# Altium schematic symbol library diy-modules.SCHLIB: 111 symbols (part 1 of 2)
Pins are listed as number, name and electrical type; pins without a type are passive.

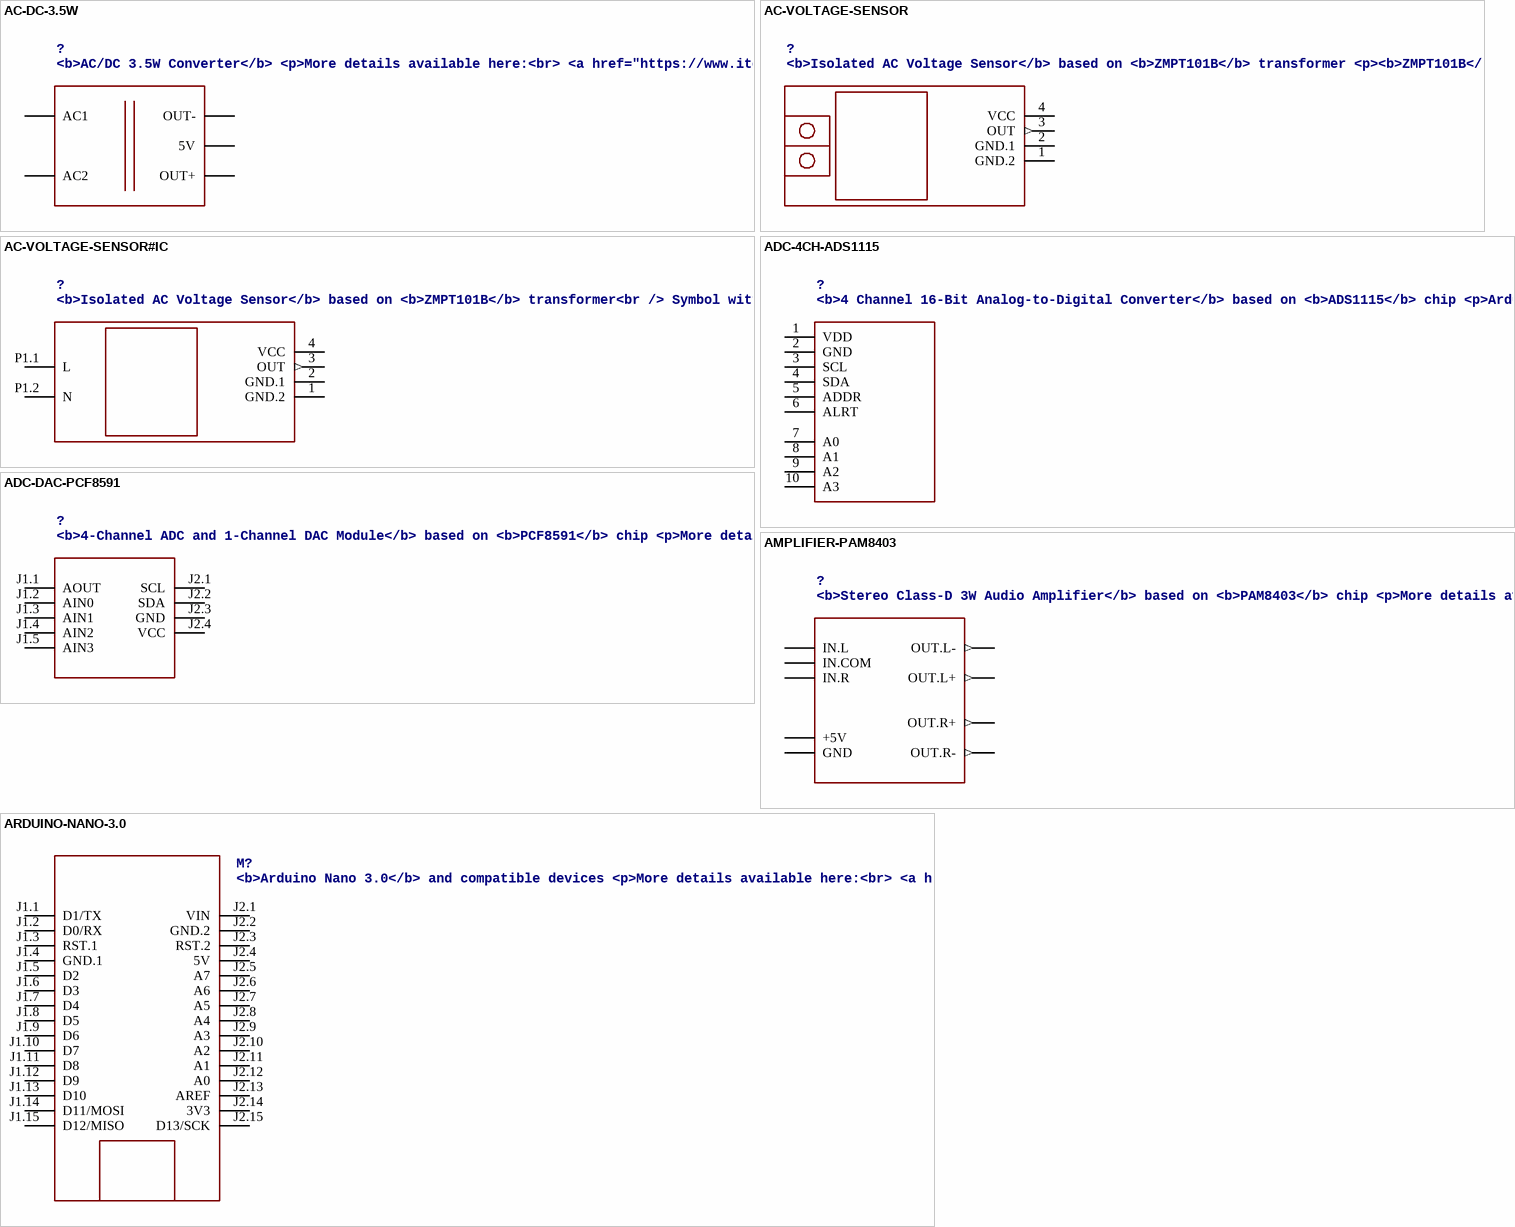
[diagram p0: symbols AC-DC-3.5W to ARDUINO-NANO-3.0]

## AC-DC-3.5W
designator ?, comment <b>AC/DC 3.5W Converter</b> / <p>More details available here:<br> / <a href="https://www.itead.cc/wiki/AC-DC_Power_Module_5V_700mA">https://www.itead.cc/wiki/AC-DC_Power_Module_5V_700mA</a></p> / <p><b><a href="http://www.ebay.com/sch/ac+dc+3.5w+buck+step">Click here to find device on ebay.com</a></b></p> / <p><img alt="photo" src="http://www.diymodules.org/img/device-photo.php?name=AC-DC-3.5W"></p>
footprint AC-DC-3.5W
pins: J1.1 AC1, J1.2 AC2, J2.1 OUT-, J2.2 5V, J2.3 OUT+

## AC-VOLTAGE-SENSOR
designator ?, comment <b>Isolated AC Voltage Sensor</b> based on <b>ZMPT101B</b> transformer / <p><b>ZMPT101B</b> Voltage Transformer Operating Guide is available here:<br /> / <a href="http://www.zeming-e.com/file/0_2013_10_18_093344.pdf">http://www.zeming-e.com/file/0_2013_10_18_093344.pdf</a></p> / <p><b><a href="http://www.ebay.com/sch/arduino+voltage+transformer">Click here to find device on ebay.com</a></b></p> / <p><img alt="photo" src="http://www.diymodules.org/img/device-photo.php?name=AC-VOLTAGE-SENSOR"></p>
footprint AC-VOLTAGE-SENSOR
pins: 1 GND.2 (power), 2 GND.1 (power), 3 OUT (out), 4 VCC (power)

## AC-VOLTAGE-SENSOR#IC
designator ?, comment <b>Isolated AC Voltage Sensor</b> based on <b>ZMPT101B</b> transformer<br /> / Symbol with input connector / <p><b>ZMPT101B</b> Voltage Transformer Operating Guide is available here:<br /> / <a href="http://www.zeming-e.com/file/0_2013_10_18_093344.pdf">http://www.zeming-e.com/file/0_2013_10_18_093344.pdf</a></p> / <p><b><a href="http://www.ebay.com/sch/arduino+voltage+transformer">Click here to find device on ebay.com</a></b></p> / <p><img alt="photo" src="http://www.diymodules.org/img/device-photo.php?name=AC-VOLTAGE-SENSOR"></p>
footprint AC-VOLTAGE-SENSOR#IC
pins: 1 GND.2 (power), 2 GND.1 (power), 3 OUT (out), 4 VCC (power), P1.1 L, P1.2 N

## ADC-4CH-ADS1115
designator ?, comment <b>4 Channel 16-Bit Analog-to-Digital Converter</b> based on <b>ADS1115</b> chip / <p>Arduino <b>ADS1115</b> Getting Started Tutorial is available here:<br /> / <a href="http://henrysbench.capnfatz.com/henrys-bench/arduino-voltage-measurements/arduino-ads1115-module-getting-started-tutorial/">http://henrysbench.capnfatz.com/henrys-bench/arduino-voltage-measurements/arduino-ads1115-module-getting-started-tutorial/</a></p> / <p><b>ADS1115</b> datasheet is available here:<br /> / <a href="http://www.ti.com/lit/ds/symlink/ads1115.pdf">http://www.ti.com/lit/ds/symlink/ads1115.pdf</a></p> / <p><b><a href="http://www.ebay.com/sch/ads1115+module">Click here to find device on ebay.com</a></b></p> / <p><img alt="photo" src="http://www.diymodules.org/img/device-photo.php?name=ADC-4CH-ADS1115"></p>
footprint ADC-4CH-ADS1115
pins: 1 VDD (power), 2 GND (power), 3 SCL, 4 SDA, 5 ADDR, 6 ALRT, 7 A0, 8 A1, 9 A2, 10 A3

## ADC-DAC-PCF8591
designator ?, comment <b>4-Channel ADC and 1-Channel DAC Module</b> based on <b>PCF8591</b> chip / <p>More details available here:<br> / <a href="https://brainfyre.wordpress.com/2012/10/25/pcf8591-yl-40-ad-da-module-review/"> / https://brainfyre.wordpress.com/2012/10/25/pcf8591-yl-40-ad-da-module-review/</a></p> / <p><b><a href="http://www.ebay.com/sch/pcf8591+arduino">Click here to find device on ebay.com</a></b></p> / <p><img alt="photo" src="http://www.diymodules.org/img/device-photo.php?name=ADC-DAC-PCF8591"></p>
footprint ADC-DAC-PCF8591
pins: J1.1 AOUT, J1.2 AIN0, J1.3 AIN1, J1.4 AIN2, J1.5 AIN3, J2.1 SCL, J2.2 SDA, J2.3 GND (power), J2.4 VCC (power)

## AMPLIFIER-PAM8403
designator ?, comment <b>Stereo Class-D 3W Audio Amplifier</b> based on <b>PAM8403</b> chip / <p>More details available here:<br> / <a href="http://artofcircuits.com/product/pam8403-5v-two-channel-stereo-mini-class-d-3w3w-audio-amplifier"> / http://artofcircuits.com/product/pam8403-5v-two-channel-stereo-mini-class-d-3w3w-audio-amplifier</a></p> / <p><b><a href="http://www.ebay.com/sch/pam8403+mini+class+d">Click here to find device on ebay.com</a></b></p> / <p><img alt="photo" src="http://www.diymodules.org/img/device-photo.php?name=AMPLIFIER-PAM8403"></p>
footprint AMPLIFIER-PAM8403
pins: +5V (power), GND (power), IN.COM, IN.L, IN.R, OUT.L+ (out), OUT.L- (out), OUT.R+ (out), OUT.R- (out)

## ARDUINO-NANO-3.0
designator M?, comment <b>Arduino Nano 3.0</b> and compatible devices / <p>More details available here:<br> / <a href="https://www.arduino.cc/en/Main/ArduinoBoardNano">https://www.arduino.cc/en/Main/ArduinoBoardNano</a></p> / <p><b><a href="http://www.ebay.com/sch/arduino+nano">Click here to find device on ebay.com</a></b></p> / <p><img alt="photo" src="http://www.diymodules.org/img/device-photo.php?name=ARDUINO-NANO-3.0"></p>
footprint ARDUINO-NANO-3.0
pins: J1.1 D1/TX, J1.2 D0/RX, J1.3 RST.1, J1.4 GND.1 (power), J1.5 D2, J1.6 D3, J1.7 D4, J1.8 D5, J1.9 D6, J1.10 D7, J1.11 D8, J1.12 D9, J1.13 D10, J1.14 D11/MOSI, J1.15 D12/MISO, J2.1 VIN (power), J2.2 GND.2 (power), J2.3 RST.2, J2.4 5V (power), J2.5 A7, J2.6 A6, J2.7 A5, J2.8 A4, J2.9 A3, J2.10 A2, J2.11 A1, J2.12 A0, J2.13 AREF, J2.14 3V3 (power), J2.15 D13/SCK

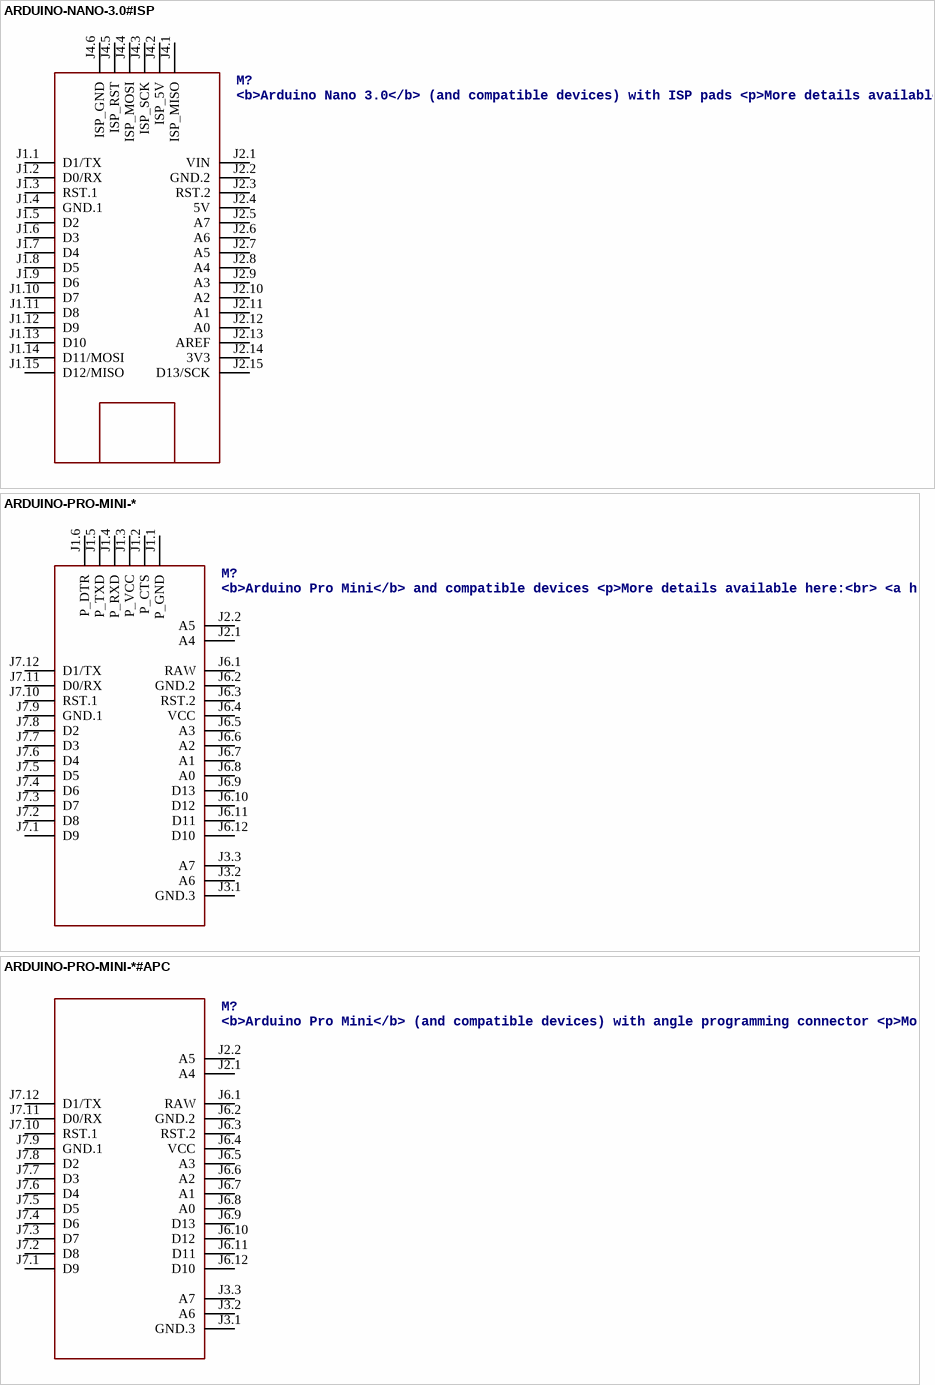
[diagram p1: symbols ARDUINO-NANO-3.0#ISP to ARDUINO-PRO-MINI-*#APC]

## ARDUINO-NANO-3.0#ISP
designator M?, comment <b>Arduino Nano 3.0</b> (and compatible devices) with ISP pads / <p>More details available here:<br> / <a href="https://www.arduino.cc/en/Main/ArduinoBoardNano">https://www.arduino.cc/en/Main/ArduinoBoardNano</a></p> / <p><b><a href="http://www.ebay.com/sch/arduino+nano">Click here to find device on ebay.com</a></b></p> / <p><img alt="photo" src="http://www.diymodules.org/img/device-photo.php?name=ARDUINO-NANO-3.0"></p>
footprint ARDUINO-NANO-3.0#ISP
pins: J1.1 D1/TX, J1.2 D0/RX, J1.3 RST.1, J1.4 GND.1 (power), J1.5 D2, J1.6 D3, J1.7 D4, J1.8 D5, J1.9 D6, J1.10 D7, J1.11 D8, J1.12 D9, J1.13 D10, J1.14 D11/MOSI, J1.15 D12/MISO, J2.1 VIN (power), J2.2 GND.2 (power), J2.3 RST.2, J2.4 5V (power), J2.5 A7, J2.6 A6, J2.7 A5, J2.8 A4, J2.9 A3, J2.10 A2, J2.11 A1, J2.12 A0, J2.13 AREF, J2.14 3V3 (power), J2.15 D13/SCK, J4.1 ISP_MISO, J4.2 ISP_5V, J4.3 ISP_SCK, J4.4 ISP_MOSI, J4.5 ISP_RST, J4.6 ISP_GND

## ARDUINO-PRO-MINI-*
designator M?, comment <b>Arduino Pro Mini</b> and compatible devices / <p>More details available here:<br> / <a href="https://www.arduino.cc/en/Main/ArduinoBoardProMini">https://www.arduino.cc/en/Main/ArduinoBoardProMini</a></p> / <p><b><a href="http://www.ebay.com/sch/arduino+pro+mini">Click here to find device on ebay.com</a></b></p> / <p><img alt="photo" src="http://www.diymodules.org/img/device-photo.php?name=ARDUINO-PRO-MINI-"></p>
footprint ARDUINO-PRO-MINI
pins: J1.1 P_GND, J1.2 P_CTS, J1.3 P_VCC, J1.4 P_RXD, J1.5 P_TXD, J1.6 P_DTR, J2.1 A4, J2.2 A5, J3.1 GND.3, J3.2 A6, J3.3 A7, J6.1 RAW (power), J6.2 GND.2 (power), J6.3 RST.2, J6.4 VCC (power), J6.5 A3, J6.6 A2, J6.7 A1, J6.8 A0, J6.9 D13, J6.10 D12, J6.11 D11, J6.12 D10, J7.1 D9, J7.2 D8, J7.3 D7, J7.4 D6, J7.5 D5, J7.6 D4, J7.7 D3, J7.8 D2, J7.9 GND.1 (power), J7.10 RST.1, J7.11 D0/RX, J7.12 D1/TX

## ARDUINO-PRO-MINI-*#APC
designator M?, comment <b>Arduino Pro Mini</b> (and compatible devices) with angle programming connector / <p>More details available here:<br> / <a href="https://www.arduino.cc/en/Main/ArduinoBoardProMini">https://www.arduino.cc/en/Main/ArduinoBoardProMini</a></p> / <p><b><a href="http://www.ebay.com/sch/arduino+pro+mini">Click here to find device on ebay.com</a></b></p> / <p><img alt="photo" src="http://www.diymodules.org/img/device-photo.php?name=ARDUINO-PRO-MINI-"></p>
footprint ARDUINO-PRO-MINI#APC
pins: J2.1 A4, J2.2 A5, J3.1 GND.3, J3.2 A6, J3.3 A7, J6.1 RAW (power), J6.2 GND.2 (power), J6.3 RST.2, J6.4 VCC (power), J6.5 A3, J6.6 A2, J6.7 A1, J6.8 A0, J6.9 D13, J6.10 D12, J6.11 D11, J6.12 D10, J7.1 D9, J7.2 D8, J7.3 D7, J7.4 D6, J7.5 D5, J7.6 D4, J7.7 D3, J7.8 D2, J7.9 GND.1 (power), J7.10 RST.1, J7.11 D0/RX, J7.12 D1/TX

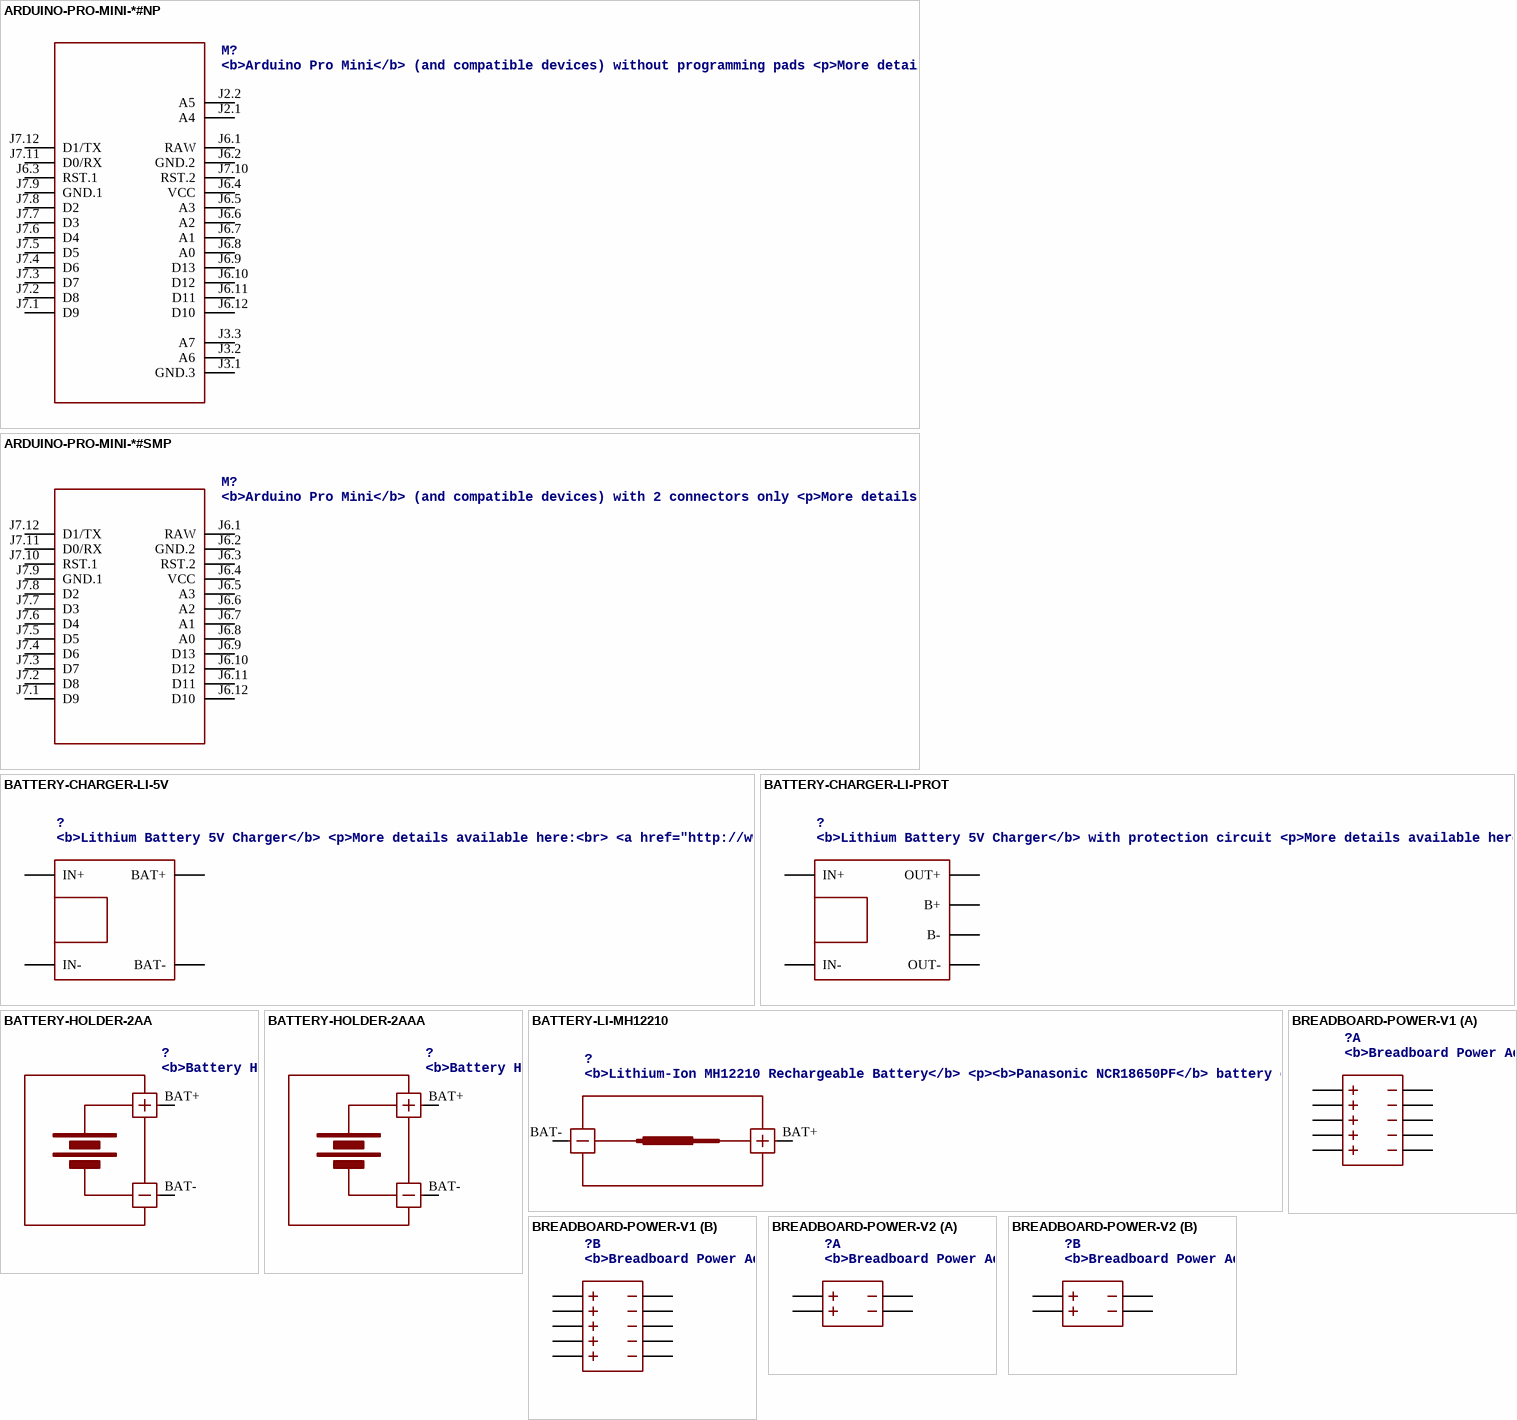
[diagram p2: symbols ARDUINO-PRO-MINI-*#NP to BREADBOARD-POWER-V2]

## ARDUINO-PRO-MINI-*#NP
designator M?, comment <b>Arduino Pro Mini</b> (and compatible devices) without programming pads / <p>More details available here:<br> / <a href="https://www.arduino.cc/en/Main/ArduinoBoardProMini">https://www.arduino.cc/en/Main/ArduinoBoardProMini</a></p> / <p><b><a href="http://www.ebay.com/sch/arduino+pro+mini">Click here to find device on ebay.com</a></b></p> / <p><img alt="photo" src="http://www.diymodules.org/img/device-photo.php?name=ARDUINO-PRO-MINI-"></p>
footprint ARDUINO-PRO-MINI#NP
pins: J2.1 A4, J2.2 A5, J3.1 GND.3, J3.2 A6, J3.3 A7, J6.1 RAW (power), J6.2 GND.2 (power), J6.3 RST.1, J6.4 VCC (power), J6.5 A3, J6.6 A2, J6.7 A1, J6.8 A0, J6.9 D13, J6.10 D12, J6.11 D11, J6.12 D10, J7.1 D9, J7.2 D8, J7.3 D7, J7.4 D6, J7.5 D5, J7.6 D4, J7.7 D3, J7.8 D2, J7.9 GND.1 (power), J7.10 RST.2, J7.11 D0/RX, J7.12 D1/TX

## ARDUINO-PRO-MINI-*#SMP
designator M?, comment <b>Arduino Pro Mini</b> (and compatible devices) with 2 connectors only / <p>More details available here:<br> / <a href="https://www.arduino.cc/en/Main/ArduinoBoardProMini">https://www.arduino.cc/en/Main/ArduinoBoardProMini</a></p> / <p><b><a href="http://www.ebay.com/sch/arduino+pro+mini">Click here to find device on ebay.com</a></b></p> / <p><img alt="photo" src="http://www.diymodules.org/img/device-photo.php?name=ARDUINO-PRO-MINI-"></p>
footprint ARDUINO-PRO-MINI#SMP
pins: J6.1 RAW (power), J6.2 GND.2 (power), J6.3 RST.2, J6.4 VCC (power), J6.5 A3, J6.6 A2, J6.7 A1, J6.8 A0, J6.9 D13, J6.10 D12, J6.11 D11, J6.12 D10, J7.1 D9, J7.2 D8, J7.3 D7, J7.4 D6, J7.5 D5, J7.6 D4, J7.7 D3, J7.8 D2, J7.9 GND.1 (power), J7.10 RST.1, J7.11 D0/RX, J7.12 D1/TX

## BATTERY-CHARGER-LI-5V
designator ?, comment <b>Lithium Battery 5V Charger</b> / <p>More details available here:<br> / <a href="http://www.buildcircuit.com/how-to-use-micro-usb-5v-1a-lithium-battery-charging-board-charger-module/"> / http://www.buildcircuit.com/how-to-use-micro-usb-5v-1a-lithium-battery-charging-board-charger-module/</a></p> / <p><b><a href="http://www.ebay.com/sch/tp4056+charger+usb">Click here to find device on ebay.com</a></b></p> / <p><img alt="photo" src="http://www.diymodules.org/img/device-photo.php?name=BATTERY-CHARGER-LI-5V"></p>
footprint BATTERY-CHARGER-LI-5V
pins: BAT+, BAT-, IN+, IN-

## BATTERY-CHARGER-LI-PROT
designator ?, comment <b>Lithium Battery 5V Charger</b> with protection circuit / <p>More details available here:<br> / <a href="http://www.instructables.com/id/DIY-Lithium-ion-Battery-Charger/step4/TP4056-based-lithium-ion-battery-charger-module/"> / http://www.instructables.com/id/DIY-Lithium-ion-Battery-Charger/step4/TP4056-based-lithium-ion-battery-charger-module/</a></p> / <p><b><a href="http://www.ebay.com/sch/tp4056+charger+usb+protection">Click here to find device on ebay.com</a></b></p> / <p><img alt="photo" src="http://www.diymodules.org/img/device-photo.php?name=BATTERY-CHARGER-LI-PROT"></p>
footprint BATTERY-CHARGER-LI-PROT
pins: B+, B-, IN+, IN-, OUT+, OUT-

## BATTERY-HOLDER-2AA
designator ?, comment <b>Battery Holder 2 x AA</b> / <p><b><a href="http://www.ebay.com/sch/battery+plastic+holder+aa+2x1.5v">Click here to find device on ebay.com</a></b></p> / <p><img alt="photo" src="http://www.diymodules.org/img/device-photo.php?name=BATTERY-HOLDER-2AA"></p>
footprint BATTERY-HOLDER-2AA
pins: BAT+ (power), BAT- (power)

## BATTERY-HOLDER-2AAA
designator ?, comment <b>Battery Holder 2 x AAA</b> / <p><b><a href="http://www.ebay.com/sch/battery+plastic+holder+aaa+2x1.5v">Click here to find device on ebay.com</a></b></p> / <p><img alt="photo" src="http://www.diymodules.org/img/device-photo.php?name=BATTERY-HOLDER-2AAA"></p>
footprint BATTERY-HOLDER-2AAA
pins: BAT+ (power), BAT- (power)

## BATTERY-LI-MH12210
designator ?, comment <b>Lithium-Ion MH12210 Rechargeable Battery</b> / <p><b>Panasonic NCR18650PF</b> battery datasheet available here:<br /><a href="https://industrial.panasonic.com/cdbs/www-data/pdf2/ACI4000/ACI4000C12.pdf">https://industrial.panasonic.com/cdbs/www-data/pdf2/ACI4000/ACI4000C12.pdf</a></p> / <p><b><a href="http://www.ebay.com/sch/ncr18650b+battery">Click here to find device on ebay.com</a></b></p> / <p><img alt="photo" src="http://www.diymodules.org/img/device-photo.php?name=BATTERY-LI-MH12210"></p>
footprint BATTERY-LI-MH12210
pins: BAT+ (power), BAT- (power)

## BREADBOARD-POWER-V1
designator ?, comment <b>Breadboard Power Adapter</b> with onboard 3.3V and 5V regulators / <p><img alt="photo" src="http://www.diymodules.org/img/device-photo.php?name=BREADBOARD-POWER-V1"></p>
footprint BREADBOARD-POWER-V1
part A pins: A.M.1 M.1, A.M.2 M.2, A.M.3 M.3, A.M.4 M.4, A.M.5 M.5, A.P.1 P.1, A.P.2 P.2, A.P.3 P.3, A.P.4 P.4, A.P.5 P.5
part B pins: B.M.1 M.1, B.M.2 M.2, B.M.3 M.3, B.M.4 M.4, B.M.5 M.5, B.P.1 P.1, B.P.2 P.2, B.P.3 P.3, B.P.4 P.4, B.P.5 P.5

## BREADBOARD-POWER-V2
designator ?, comment <b>Breadboard Power Adapter</b> with onboard 3.3V and 5V regulators / <p><b><a href="http://www.ebay.com/sch/breadboard+power+mb102">Click here to find device on ebay.com</a></b></p> / <p><img alt="photo" src="http://www.diymodules.org/img/device-photo.php?name=BREADBOARD-POWER-V2"></p>
footprint BREADBOARD-POWER-V2
part A pins: A.M.1 M.1, A.M.2 M.2, A.P.1 P.1, A.P.2 P.2
part B pins: B.M.1 M.1, B.M.2 M.2, B.P.1 P.1, B.P.2 P.2

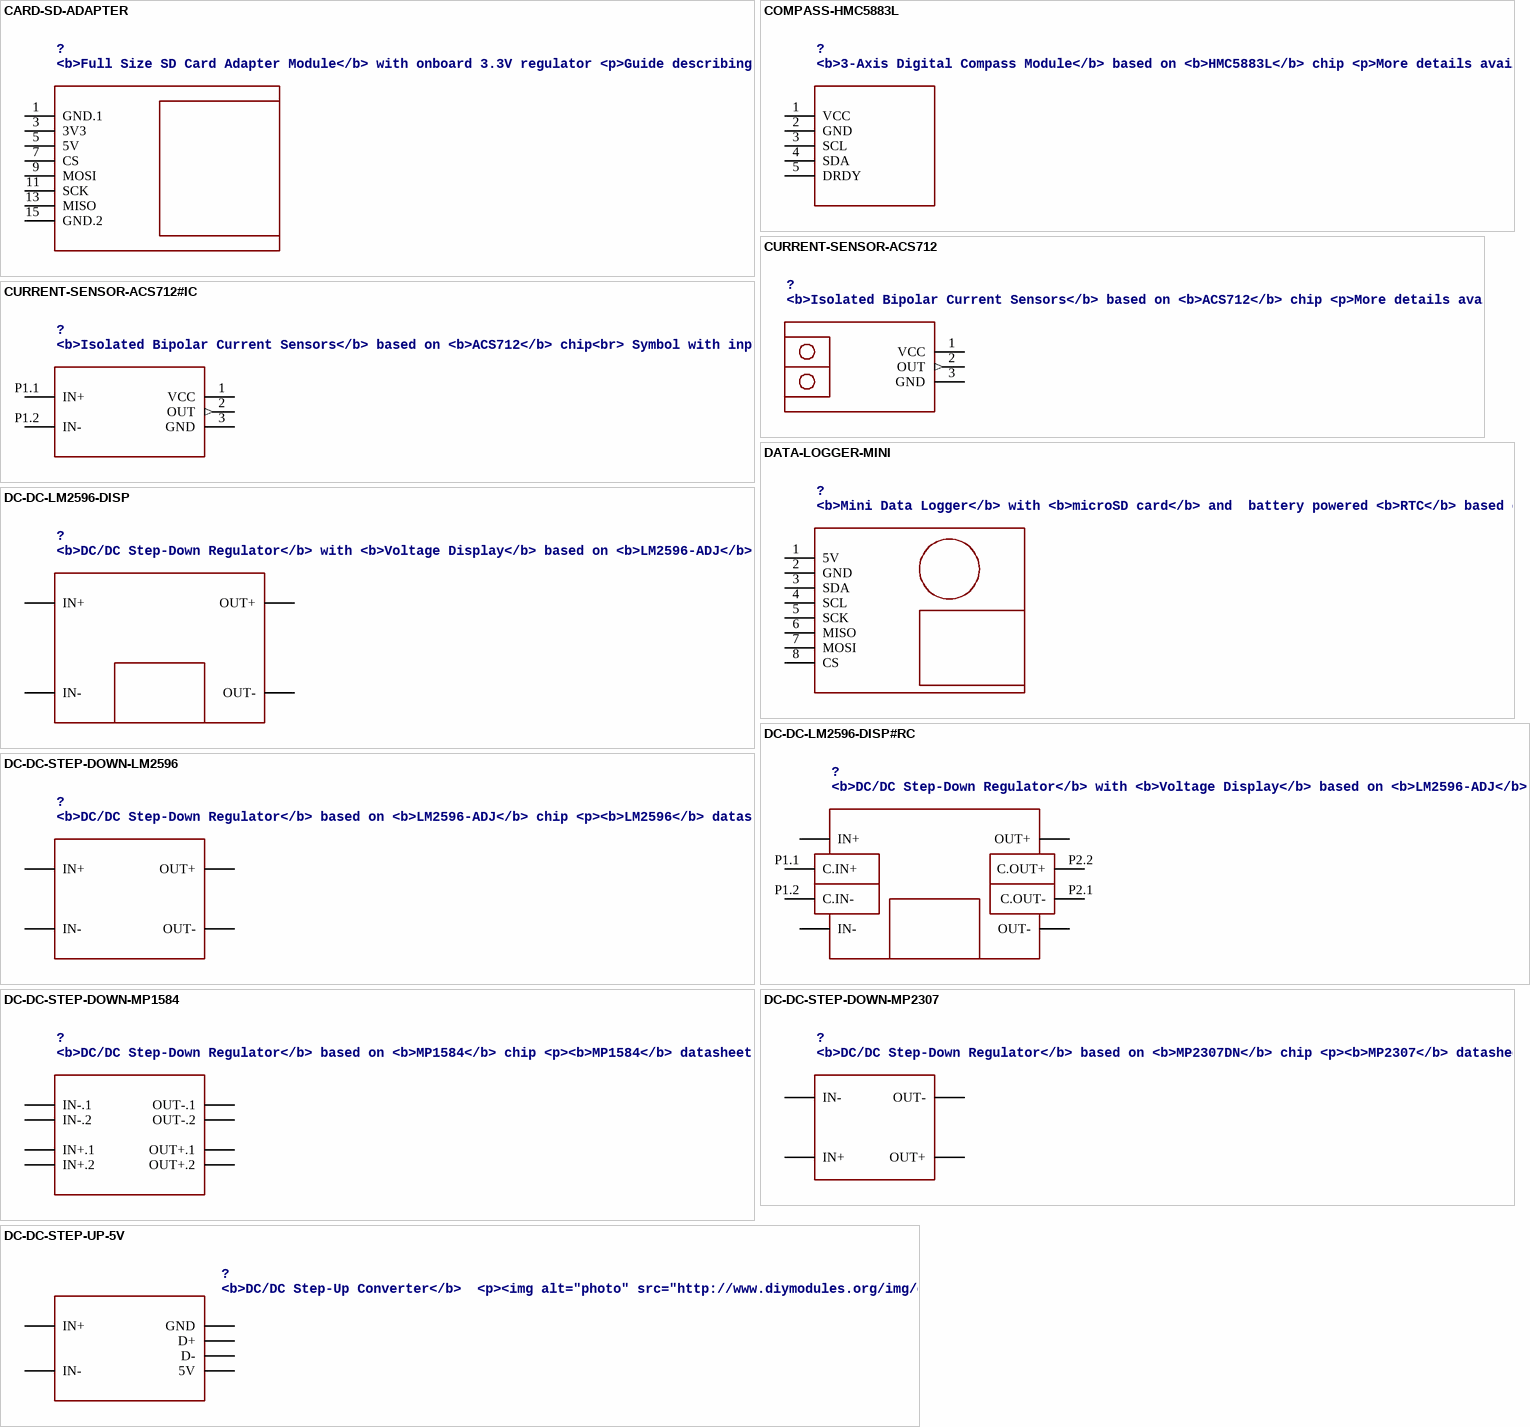
[diagram p3: symbols CARD-SD-ADAPTER to DC-DC-STEP-UP-5V]

## CARD-SD-ADAPTER
designator ?, comment <b>Full Size SD Card Adapter Module</b> with onboard 3.3V regulator / <p>Guide describing how to use SD card with Arduino is available here:<br /> / <a href="https://www.arduino.cc/en/Reference/SDCardNotes">https://www.arduino.cc/en/Reference/SDCardNotes</a></p> / <p><b><a href="http://www.ebay.com/sch/sd+card+socket+module">Click here to find device on ebay.com</a></b></p> / <p><img alt="photo" src="http://www.diymodules.org/img/device-photo.php?name=CARD-SD-ADAPTER"></p>
footprint CARD-SD-ADAPTER
pins: 1 GND.1 (power), 3 3V3 (power), 5 5V (power), 7 CS, 9 MOSI, 11 SCK, 13 MISO, 15 GND.2 (power)

## COMPASS-HMC5883L
designator ?, comment <b>3-Axis Digital Compass Module</b> based on <b>HMC5883L</b> chip / <p>More details available here:<br> / <a href="http://www.electrodragon.com/w/HMC">http://www.electrodragon.com/w/HMC</a></p> / <p><b><a href="http://www.ebay.com/sch/gy+271+hmc5883+ module">Click here to find device on ebay.com</a></b></p> / <p><img alt="photo" src="http://www.diymodules.org/img/device-photo.php?name=COMPASS-HMC5883L"></p>
footprint COMPASS-HMC5883L
pins: 1 VCC (power), 2 GND (power), 3 SCL, 4 SDA, 5 DRDY

## CURRENT-SENSOR-ACS712
designator ?, comment <b>Isolated Bipolar Current Sensors</b> based on <b>ACS712</b> chip / <p>More details available here:<br> / <a href="http://embedded-lab.com/blog/a-brief-overview-of-allegro-acs712-current-sensor-part-1/"> / http://embedded-lab.com/blog/a-brief-overview-of-allegro-acs712-current-sensor-part-1/</a></p> / <p><b><a href="http://www.ebay.com/sch/acs712+module ">Click here to find device on ebay.com</a></b><br /> / <b>Note:</b> There are many available versions with different pinout. Please check before use</p> / <p><img alt="photo" src="http://www.diymodules.org/img/device-photo.php?name=CURRENT-SENSOR-ACS712"></p>
footprint CURRENT-SENSOR-ACS712
pins: 1 VCC (power), 2 OUT (out), 3 GND (power)

## CURRENT-SENSOR-ACS712#IC
designator ?, comment <b>Isolated Bipolar Current Sensors</b> based on <b>ACS712</b> chip<br> / Symbol with input pins / <p>More details available here:<br> / <a href="http://embedded-lab.com/blog/a-brief-overview-of-allegro-acs712-current-sensor-part-1/"> / http://embedded-lab.com/blog/a-brief-overview-of-allegro-acs712-current-sensor-part-1/</a></p> / <p><b><a href="http://www.ebay.com/sch/acs712+module ">Click here to find device on ebay.com</a></b><br /> / <b>Note:</b> There are many available versions with different pinout. Please check before use</p> / <p><img alt="photo" src="http://www.diymodules.org/img/device-photo.php?name=CURRENT-SENSOR-ACS712"></p>
footprint CURRENT-SENSOR-ACS712#IC
pins: 1 VCC (power), 2 OUT (out), 3 GND (power), P1.1 IN+, P1.2 IN-

## DATA-LOGGER-MINI
designator ?, comment <b>Mini Data Logger</b> with <b>microSD card</b> and  battery powered <b>RTC</b> based on <b>DS1307</b> chip / <p>Arduino library for <b>DS1307</b> and description are available here:<br> / <a href="https://www.pjrc.com/teensy/td_libs_DS1307RTC.html">https://www.pjrc.com/teensy/td_libs_DS1307RTC.html</a></p> / <p>Tutorial how to use <b>SD card</b> with Arduino:<br> / <a href="https://www.arduino.cc/en/reference/SD">https://www.arduino.cc/en/reference/SD</a></p> / <p><b><a href="http://www.ebay.com/sch/mini+data+logger+arduino">Click here to find device on ebay.com</a></b></p> / <p><img alt="photo" src="http://www.diymodules.org/img/device-photo.php?name=DATA-LOGGER-MINI"></p>
footprint DATA-LOGGER-MINI
pins: 1 5V (power), 2 GND (power), 3 SDA, 4 SCL, 5 SCK, 6 MISO, 7 MOSI, 8 CS (power)

## DC-DC-LM2596-DISP
designator ?, comment <b>DC/DC Step-Down Regulator</b> with <b>Voltage Display</b> based on <b>LM2596-ADJ</b> chip / <p>More details available here:<br /><a href="http://www.instructables.com/id/The-Introduction-of-LM2596-Step-Down-Power-Module-/">http://www.instructables.com/id/The-Introduction-of-LM2596-Step-Down-Power-Module-/</a></p> / <p><b>LM2596</b> datasheet available here:<br /><a href="http://www.ti.com/lit/ds/symlink/lm2596.pdf">http://www.ti.com/lit/ds/symlink/lm2596.pdf</a></p> / <p><b><a href="http://www.ebay.com/sch/lm2596+led+voltmeter+40">Click here to find device on ebay.com</a></b></p> / <p><img alt="photo" src="http://www.diymodules.org/img/device-photo.php?name=DC-DC-LM2596-DISP"></p>
footprint DC-DC-LM2596-DISP
pins: IN+, IN-, OUT+, OUT-

## DC-DC-LM2596-DISP#RC
designator ?, comment <b>DC/DC Step-Down Regulator</b> with <b>Voltage Display</b> based on <b>LM2596-ADJ</b> chip<br> / Symbol with input and output connectors / <p>More details available here:<br /><a href="http://www.instructables.com/id/The-Introduction-of-LM2596-Step-Down-Power-Module-/">http://www.instructables.com/id/The-Introduction-of-LM2596-Step-Down-Power-Module-/</a></p> / <p><b>LM2596</b> datasheet available here:<br /><a href="http://www.ti.com/lit/ds/symlink/lm2596.pdf">http://www.ti.com/lit/ds/symlink/lm2596.pdf</a></p> / <p><b><a href="http://www.ebay.com/sch/lm2596+led+voltmeter+40">Click here to find device on ebay.com</a></b></p> / <p><img alt="photo" src="http://www.diymodules.org/img/device-photo.php?name=DC-DC-LM2596-DISP"></p>
footprint DC-DC-LM2596-DISP#RC
pins: IN+, IN-, OUT+, OUT-, P1.1 C.IN+, P1.2 C.IN-, P2.1 C.OUT-, P2.2 C.OUT+

## DC-DC-STEP-DOWN-LM2596
designator ?, comment <b>DC/DC Step-Down Regulator</b> based on <b>LM2596-ADJ</b> chip / <p><b>LM2596</b> datasheet available here:<br /><a href="http://www.ti.com/lit/ds/symlink/lm2596.pdf">http://www.ti.com/lit/ds/symlink/lm2596.pdf</a></p> / <p><b><a href="http://www.ebay.com/sch/lm2596+power+regulator">Click here to find device on ebay.com</a></b></p> / <p><img alt="photo" src="http://www.diymodules.org/img/device-photo.php?name=DC-DC-STEP-DOWN-LM2596"></p>
footprint DC-DC-STEP-DOWN-LM2596
pins: IN+, IN-, OUT+, OUT-

## DC-DC-STEP-DOWN-MP1584
designator ?, comment <b>DC/DC Step-Down Regulator</b> based on <b>MP1584</b> chip / <p><b>MP1584</b> datasheet available here:<br /> / <a href="http://www.haoyuelectronics.com/Attachment/MP1584/MP1584.pdf">http://www.haoyuelectronics.com/Attachment/MP1584/MP1584.pdf</a></p> / <p><b><a href="http://www.ebay.com/sch/mp1584+module">Click here to find device on ebay.com</a></b></p> / <p><img alt="photo" src="http://www.diymodules.org/img/device-photo.php?name=DC-DC-STEP-DOWN-MP1584"></p>
footprint DC-DC-STEP-DOWN-MP1584
pins: IN+.1, IN+.2, IN-.1, IN-.2, OUT+.1, OUT+.2, OUT-.1, OUT-.2

## DC-DC-STEP-DOWN-MP2307
designator ?, comment <b>DC/DC Step-Down Regulator</b> based on <b>MP2307DN</b> chip / <p><b>MP2307</b> datasheet available here:<br> / <a href="https://cdn-shop.adafruit.com/datasheets/MP2307_r1.9.pdf">https://cdn-shop.adafruit.com/datasheets/MP2307_r1.9.pdf</a></p> / <p><b><a href="http://www.ebay.com/sch/dc+dc+3a+mini+converter">Click here to find device on ebay.com</a></b></p> / <p><img alt="photo" src="http://www.diymodules.org/img/device-photo.php?name=DC-DC-STEP-DOWN-MP2307"></p>
footprint DC-DC-STEP-DOWN-MP2307
pins: IN+, IN-, OUT+, OUT-

## DC-DC-STEP-UP-5V
designator ?, comment <b>DC/DC Step-Up Converter</b> / <p><img alt="photo" src="http://www.diymodules.org/img/device-photo.php?name=DC-DC-STEP-UP-5V"></p>
footprint DC-DC-STEP-UP-5V
pins: 5V, D+, D-, GND, IN+ (power), IN- (power)

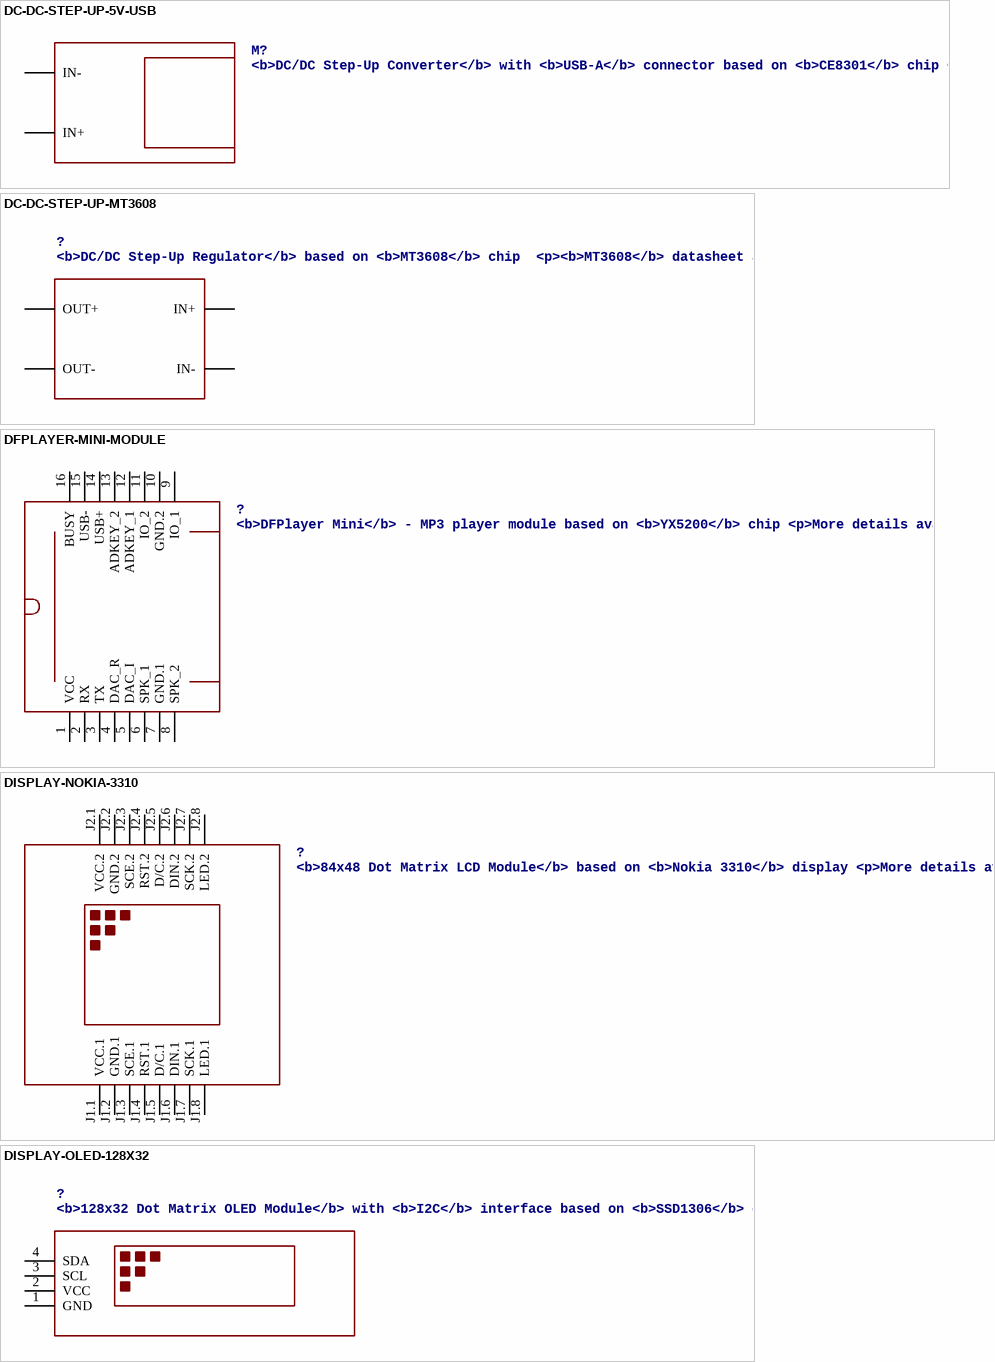
[diagram p4: symbols DC-DC-STEP-UP-5V-USB to DISPLAY-OLED-128X32]

## DC-DC-STEP-UP-5V-USB
designator M?, comment <b>DC/DC Step-Up Converter</b> with <b>USB-A</b> connector based on <b>CE8301</b> chip / <p><b>CE8301</b> datasheet available here:<br /> / <a href="https://www.mpja.com/download/ce830.pdf">https://www.mpja.com/download/ce830.pdf</a></p> / <p><b><a href="http://www.ebay.com/sch/boost+5v+0.9+usb+pfm">Click here to find device on ebay.com</a></b></p> / <p><img alt="photo" src="http://www.diymodules.org/img/device-photo.php?name=DC-DC-STEP-UP-5V-USB"></p>
footprint DC-DC-STEP-UP-5V-USB
pins: IN+ (power), IN- (power)

## DC-DC-STEP-UP-MT3608
designator ?, comment <b>DC/DC Step-Up Regulator</b> based on <b>MT3608</b> chip / <p><b>MT3608</b> datasheet available here:<br /> / <a href="https://www.olimex.com/Products/Breadboarding/BB-PWR-3608/resources/MT3608.pdf">https://www.olimex.com/Products/Breadboarding/BB-PWR-3608/resources/MT3608.pdf</a></p> / <p><b><a href="http://www.ebay.com/sch/mt3608+module">Click here to find device on ebay.com</a></b></p> / <p><img alt="photo" src="http://www.diymodules.org/img/device-photo.php?name=DC-DC-STEP-UP-MT3608"></p>
footprint DC-DC-STEP-UP-MT3608
pins: IN+, IN-, OUT+, OUT-

## DFPLAYER-MINI-MODULE
designator ?, comment <b>DFPlayer Mini</b> - MP3 player module based on <b>YX5200</b> chip / <p>More details available here:<br><a href="https://www.dfrobot.com/wiki/index.php/DFPlayer_Mini_SKU:DFR0299">https://www.dfrobot.com/wiki/index.php/DFPlayer_Mini_SKU:DFR0299</a></p> / <p><b><a href="http://www.ebay.com/sch/dfplayer+mini">Click here to find device on ebay.com</a></b></p> / <p><img alt="photo" src="http://www.diymodules.org/img/device-photo.php?name=DFPLAYER-MINI-MODULE"></p>
footprint DFPLAYER-MINI-MODULE
pins: 1 VCC (power), 2 RX, 3 TX, 4 DAC_R, 5 DAC_I, 6 SPK_1, 7 GND.1 (power), 8 SPK_2, 9 IO_1, 10 GND.2 (power), 11 IO_2, 12 ADKEY_1, 13 ADKEY_2, 14 USB+, 15 USB-, 16 BUSY

## DISPLAY-NOKIA-3310
designator ?, comment <b>84x48 Dot Matrix LCD Module</b> based on <b>Nokia 3310</b> display / <p>More details available here:<br /> / <a href="https://arduinoandsoftware.wordpress.com/2012/12/30/nokia-33105110-3-3v-display-with-5v-arduino/">https://arduinoandsoftware.wordpress.com/2012/12/30/nokia-33105110-3-3v-display-with-5v-arduino/</a></p> / <p><img alt="photo" src="http://www.diymodules.org/img/device-photo.php?name=DISPLAY-NOKIA-3310"></p>
footprint DISPLAY-NOKIA-3310
pins: J1.1 VCC.1 (power), J1.2 GND.1 (power), J1.3 SCE.1, J1.4 RST.1, J1.5 D/C.1, J1.6 DIN.1, J1.7 SCK.1, J1.8 LED.1, J2.1 VCC.2 (power), J2.2 GND.2 (power), J2.3 SCE.2, J2.4 RST.2, J2.5 D/C.2, J2.6 DIN.2, J2.7 SCK.2, J2.8 LED.2

## DISPLAY-OLED-128X32
designator ?, comment <b>128x32 Dot Matrix OLED Module</b> with <b>I2C</b> interface based on <b>SSD1306</b> chip / <p>More details available here:<br> / <a href="http://www.tinyosshop.com/index.php?route=product/product&product_id=953">http://www.tinyosshop.com/index.php?route=product/product&product_id=953</a></p> / <p>Schematic available here:<br> / <a href="http://www.tinyosshop.com/datasheet/OLED%2012832.pdf">http://www.tinyosshop.com/datasheet/OLED%2012832.pdf</a></p> / <p><b>SSD1306</b> datasheet:<br> / <a href="https://cdn-shop.adafruit.com/datasheets/SSD1306.pdf">https://cdn-shop.adafruit.com/datasheets/SSD1306.pdf</a></p> / <p><b><a href="http://www.ebay.com/sch/oled+display+128x32+i2c">Click here to find device on ebay.com</a></b></p> / <p><img alt="photo" src="http://www.diymodules.org/img/device-photo.php?name=DISPLAY-OLED-128X32"></p>
footprint DISPLAY-OLED-128X32
pins: 1 GND (power), 2 VCC (power), 3 SCL, 4 SDA

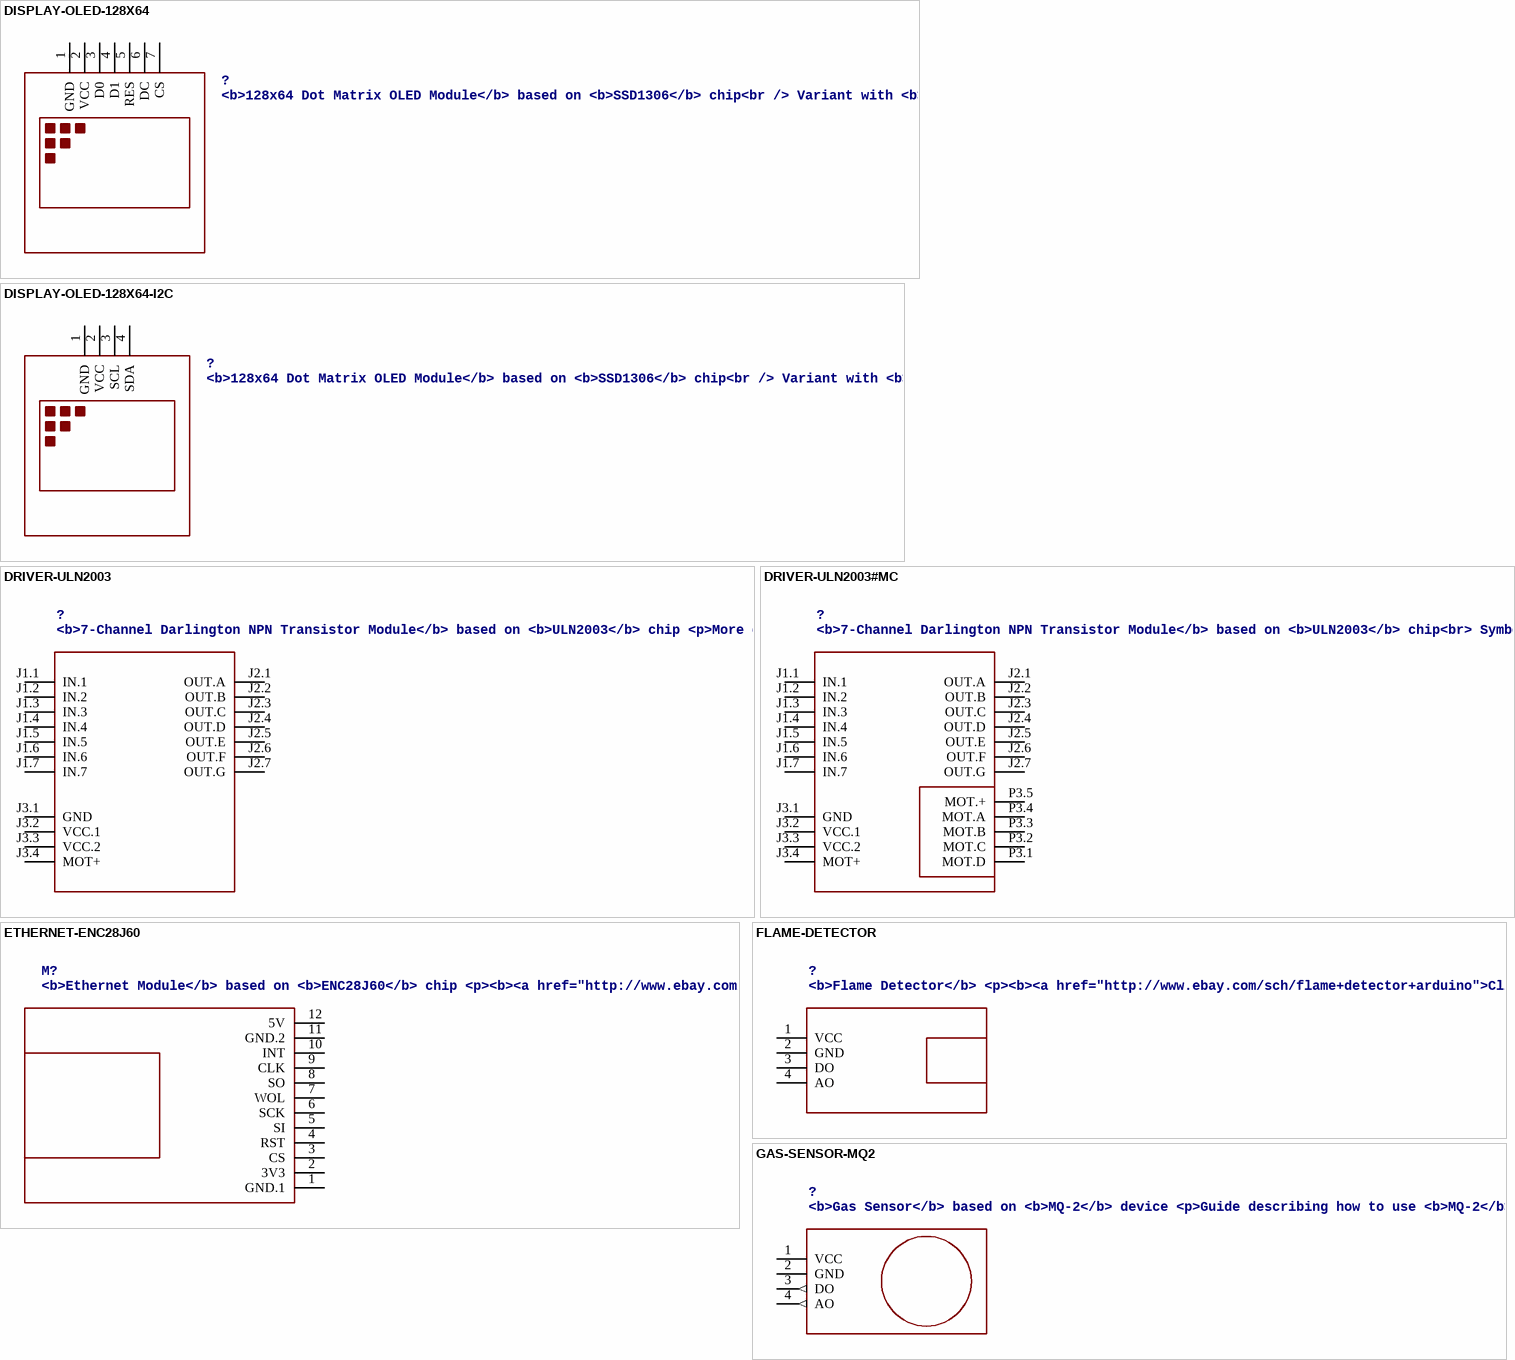
[diagram p5: symbols DISPLAY-OLED-128X64 to GAS-SENSOR-MQ2]

## DISPLAY-OLED-128X64
designator ?, comment <b>128x64 Dot Matrix OLED Module</b> based on <b>SSD1306</b> chip<br /> / Variant with <b>SPI interface</b> / <p>More details available here:<br /> / <a href="http://www.instructables.com/id/How-to-use-OLED-display-arduino-module/">http://www.instructables.com/id/How-to-use-OLED-display-arduino-module/</a></p> / <p><b>SSD1306</b> datasheet:<br> / <a href="https://cdn-shop.adafruit.com/datasheets/SSD1306.pdf">https://cdn-shop.adafruit.com/datasheets/SSD1306.pdf</a></p> / <p><b><a href="http://www.ebay.com/sch/oled+display+128x64">Click here to find device on ebay.com</a></b><br /> / <b>Note:</b> There are two variants: I2C and SPI. Search for the proper version.</p> / <p><img alt="photo" src="http://www.diymodules.org/img/device-photo.php?name=DISPLAY-OLED-128X64"></p>
footprint DISPLAY-OLED-128X64
pins: 1 GND (power), 2 VCC (power), 3 D0, 4 D1, 5 RES, 6 DC, 7 CS

## DISPLAY-OLED-128X64-I2C
designator ?, comment <b>128x64 Dot Matrix OLED Module</b> based on <b>SSD1306</b> chip<br /> / Variant with <b>I2C interface</b> / <p>More details available here:<br /> / <a href="http://www.instructables.com/id/Monochrome-096-i2c-OLED-display-with-arduino-SSD13/">http://www.instructables.com/id/Monochrome-096-i2c-OLED-display-with-arduino-SSD13/</a></p> / <p><b>SSD1306</b> datasheet:<br> / <a href="https://cdn-shop.adafruit.com/datasheets/SSD1306.pdf">https://cdn-shop.adafruit.com/datasheets/SSD1306.pdf</a></p> / <p><b><a href="http://www.ebay.com/sch/oled+display+128x64+iic">Click here to find device on ebay.com</a></b><br /> / <b>Note:</b> There are two variants: I2C and SPI. Search for the proper version.</p> / <p><img alt="photo" src="http://www.diymodules.org/img/device-photo.php?name=DISPLAY-OLED-128X64-I2C"></p>
footprint DISPLAY-OLED-128X64-I2C
pins: 1 GND (power), 2 VCC (power), 3 SCL, 4 SDA

## DRIVER-ULN2003
designator ?, comment <b>7-Channel Darlington NPN Transistor Module</b> based on <b>ULN2003</b> chip / <p>More details available here:<br /><a href="https://www.elecrow.com/wiki/index.php?title=ULN2003_Stepper_Motor_Driver">https://www.elecrow.com/wiki/index.php?title=ULN2003_Stepper_Motor_Driver</a></p> / <p><b>ULN2003</b> datasheet available here:<br /> / <a href="http://www.ti.com/lit/ds/slrs027o/slrs027o.pdf">http://www.ti.com/lit/ds/slrs027o/slrs027o.pdf</a></p> / <p><b><a href="http://www.ebay.com/sch/uln2003+stepper+driver+module">Click here to find device on ebay.com</a></b><br /> / <b>Note:</b> There are many variants. Search for the proper version.</p> / <p><img alt="photo" src="http://www.diymodules.org/img/device-photo.php?name=DRIVER-ULN2003"></p>
footprint DRIVER-ULN2003
pins: J1.1 IN.1, J1.2 IN.2, J1.3 IN.3, J1.4 IN.4, J1.5 IN.5, J1.6 IN.6, J1.7 IN.7, J2.1 OUT.A, J2.2 OUT.B, J2.3 OUT.C, J2.4 OUT.D, J2.5 OUT.E, J2.6 OUT.F, J2.7 OUT.G, J3.1 GND (power), J3.2 VCC.1 (power), J3.3 VCC.2, J3.4 MOT+

## DRIVER-ULN2003#MC
designator ?, comment <b>7-Channel Darlington NPN Transistor Module</b> based on <b>ULN2003</b> chip<br> / Symbol with motor connector pins / <p>More details available here:<br /><a href="https://www.elecrow.com/wiki/index.php?title=ULN2003_Stepper_Motor_Driver">https://www.elecrow.com/wiki/index.php?title=ULN2003_Stepper_Motor_Driver</a></p> / <p><b>ULN2003</b> datasheet available here:<br /> / <a href="http://www.ti.com/lit/ds/slrs027o/slrs027o.pdf">http://www.ti.com/lit/ds/slrs027o/slrs027o.pdf</a></p> / <p><b><a href="http://www.ebay.com/sch/uln2003+stepper+driver+module">Click here to find device on ebay.com</a></b><br /> / <b>Note:</b> There are many variants. Search for the proper version.</p> / <p><img alt="photo" src="http://www.diymodules.org/img/device-photo.php?name=DRIVER-ULN2003"></p>
footprint DRIVER-ULN2003#MC
pins: J1.1 IN.1, J1.2 IN.2, J1.3 IN.3, J1.4 IN.4, J1.5 IN.5, J1.6 IN.6, J1.7 IN.7, J2.1 OUT.A, J2.2 OUT.B, J2.3 OUT.C, J2.4 OUT.D, J2.5 OUT.E, J2.6 OUT.F, J2.7 OUT.G, J3.1 GND (power), J3.2 VCC.1 (power), J3.3 VCC.2, J3.4 MOT+, P3.1 MOT.D, P3.2 MOT.C, P3.3 MOT.B, P3.4 MOT.A, P3.5 MOT.+

## ETHERNET-ENC28J60
designator M?, comment <b>Ethernet Module</b> based on <b>ENC28J60</b> chip / <p><b><a href="http://www.ebay.com/sch/end28j60+ethernet+lan+module">Click here to find device on ebay.com</a></b><br /> / <b>Note:</b> There are many variants. Search for the proper version.</p> / <p><img alt="photo" src="http://www.diymodules.org/img/device-photo.php?name=ETHERNET-ENC28J60"></p>
footprint ETHERNET-ENC28J60
pins: 1 GND.1 (power), 2 3V3 (power), 3 CS, 4 RST, 5 SI, 6 SCK, 7 WOL, 8 SO, 9 CLK, 10 INT, 11 GND.2 (power), 12 5V (power)

## FLAME-DETECTOR
designator ?, comment <b>Flame Detector</b> / <p><b><a href="http://www.ebay.com/sch/flame+detector+arduino">Click here to find device on ebay.com</a></b></p> / <p><img alt="photo" src="http://www.diymodules.org/img/device-photo.php?name=FLAME-DETECTOR"></p>
footprint FLAME-DETECTOR
pins: 1 VCC (power), 2 GND (power), 3 DO, 4 AO

## GAS-SENSOR-MQ2
designator ?, comment <b>Gas Sensor</b> based on <b>MQ-2</b> device / <p>Guide describing how to use <b>MQ-2</b> sensor with Arduino is available here:<br /> / <a href="http://www.instructables.com/id/How-to-use-MQ2-Gas-Sensor-Arduino-Tutorial/">http://www.instructables.com/id/How-to-use-MQ2-Gas-Sensor-Arduino-Tutorial/</a></p> / <p><b>MQ-2</b> sensor datasheet is available here:<br /> / <a href="http://gas-sensor.ru/pdf/combustible-gas-sensor.pdf">http://gas-sensor.ru/pdf/combustible-gas-sensor.pdf</a></p> / <p><b><a href="http://www.ebay.com/sch/mq2+sensor+module+smoke">Click here to find device on ebay.com</a></b></p> / <p><img alt="photo" src="http://www.diymodules.org/img/device-photo.php?name=GAS-SENSOR-MQ2"></p>
footprint GAS-SENSOR-MQ2
pins: 1 VCC (power), 2 GND (power), 3 DO (out), 4 AO (out)

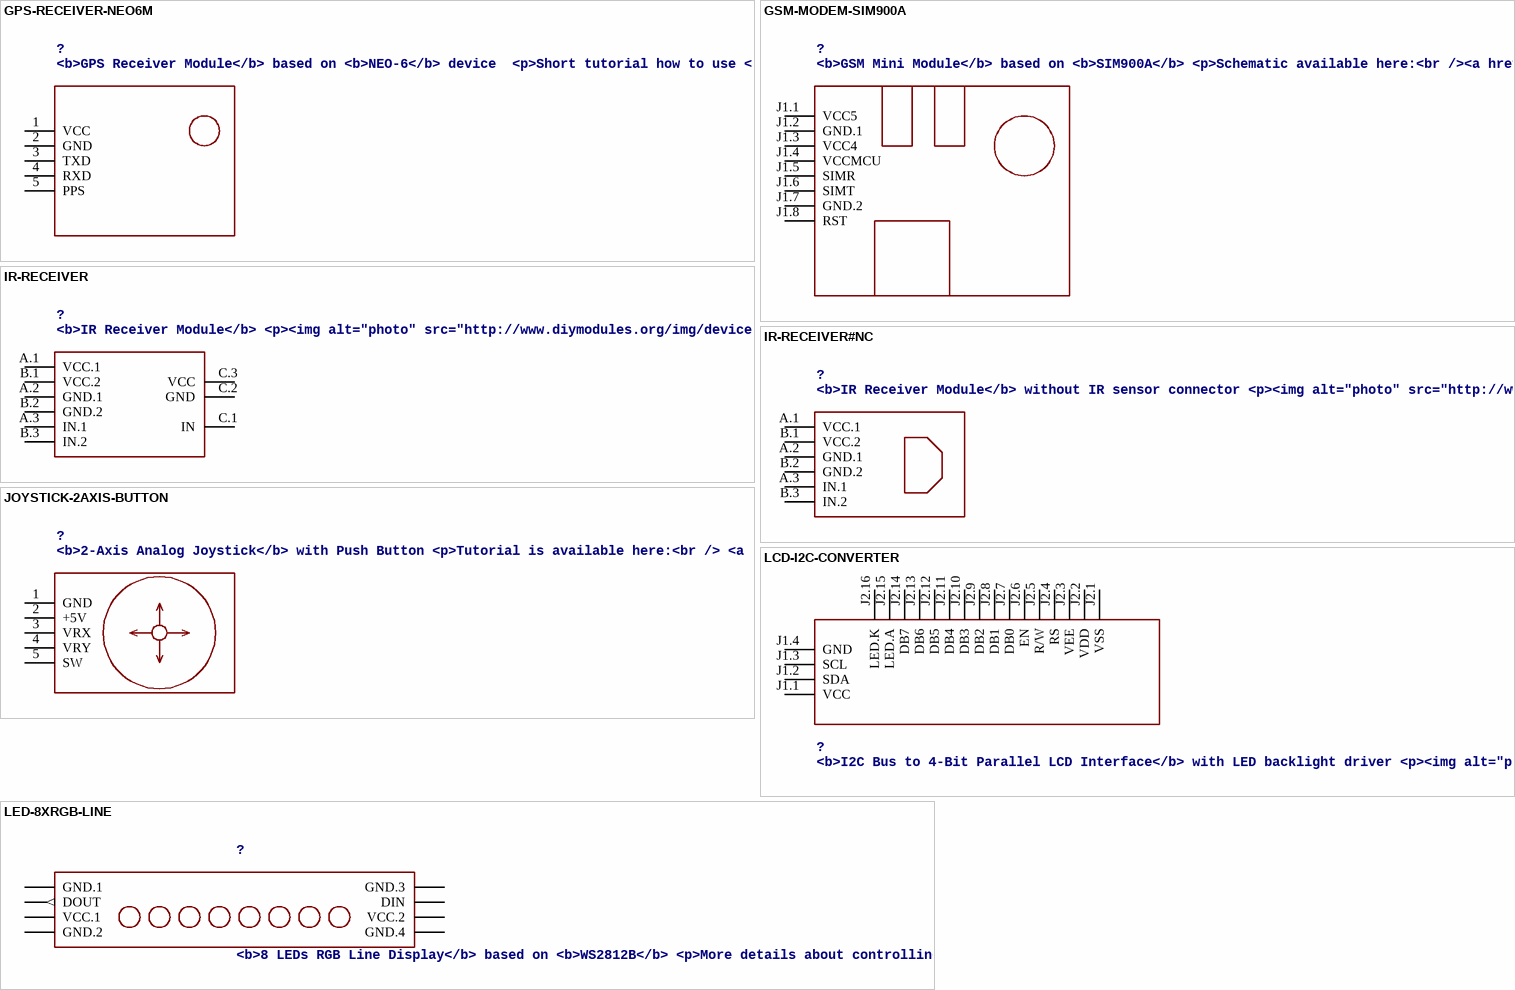
[diagram p6: symbols GPS-RECEIVER-NEO6M to LED-8XRGB-LINE]

## GPS-RECEIVER-NEO6M
designator ?, comment <b>GPS Receiver Module</b> based on <b>NEO-6</b> device / <p>Short tutorial how to use <b>NEO-6</b> module with Arduino:<br> / <a href="http://www.xarg.org/2016/06/neo6mv2-gps-module-with-arduino/">http://www.xarg.org/2016/06/neo6mv2-gps-module-with-arduino/</a></p> / <p><b>NEO-6</b> datasheet is available here:<br> / <a href="https://www.u-blox.com/sites/default/files/products/documents/NEO-6_DataSheet_%28GPS.G6-HW-09005%29.pdf">https://www.u-blox.com/sites/default/files/products/documents/NEO-6_DataSheet_%28GPS.G6-HW-09005%29.pdf</a></p> / <p><b><a href="http://www.ebay.com/sch/gyneo6mv2">Click here to find device on ebay.com</a></b></p> / <p><img alt="photo" src="http://www.diymodules.org/img/device-photo.php?name=GPS-RECEIVER-NEO6M"></p>
footprint GPS-RECEIVER-NEO6M
pins: 1 VCC, 2 GND, 3 TXD, 4 RXD (power), 5 PPS (power)

## GSM-MODEM-SIM900A
designator ?, comment <b>GSM Mini Module</b> based on <b>SIM900A</b> / <p>Schematic available here:<br /><a href="http://www.electrodragon.com/w/SIM900_(SIM900A)_Mini_DEV_Board">http://www.electrodragon.com/w/SIM900_(SIM900A)_Mini_DEV_Board</a></p> / <p><img alt="photo" src="http://www.diymodules.org/img/device-photo.php?name=GSM-MODEM-SIM900A"></p>
footprint GSM-MODEM-SIM900A
pins: J1.1 VCC5 (power), J1.2 GND.1 (power), J1.3 VCC4 (power), J1.4 VCCMCU (power), J1.5 SIMR, J1.6 SIMT, J1.7 GND.2 (power), J1.8 RST

## IR-RECEIVER
designator ?, comment <b>IR Receiver Module</b> / <p><img alt="photo" src="http://www.diymodules.org/img/device-photo.php?name=IR-RECEIVER"></p>
footprint IR-RECEIVER
pins: A.1 VCC.1, A.2 GND.1, A.3 IN.1, B.1 VCC.2, B.2 GND.2, B.3 IN.2, C.1 IN, C.2 GND, C.3 VCC

## IR-RECEIVER#NC
designator ?, comment <b>IR Receiver Module</b> without IR sensor connector / <p><img alt="photo" src="http://www.diymodules.org/img/device-photo.php?name=IR-RECEIVER"></p>
footprint IR-RECEIVER#NC
pins: A.1 VCC.1, A.2 GND.1, A.3 IN.1, B.1 VCC.2, B.2 GND.2, B.3 IN.2

## JOYSTICK-2AXIS-BUTTON
designator ?, comment <b>2-Axis Analog Joystick</b> with Push Button / <p>Tutorial is available here:<br /> / <a href="http://henrysbench.capnfatz.com/henrys-bench/arduino-sensors-and-input/arduino-ps2-joystick-tutorial-keyes-ky-023-deek-robot/">http://henrysbench.capnfatz.com/henrys-bench/arduino-sensors-and-input/arduino-ps2-joystick-tutorial-keyes-ky-023-deek-robot/</a></p> / <p><b><a href="http://www.ebay.com/sch/joystick+ps2+module">Click here to find device on ebay.com</a></b></p> / <p><img alt="photo" src="http://www.diymodules.org/img/device-photo.php?name=JOYSTICK-2AXIS-BUTTON"></p>
footprint JOYSTICK-2AXIS-BUTTON
pins: 1 GND (power), 2 +5V (power), 3 VRX, 4 VRY, 5 SW

## LCD-I2C-CONVERTER
designator ?, comment <b>I2C Bus to 4-Bit Parallel LCD Interface</b> with LED backlight driver / <p><img alt="photo" src="http://www.diymodules.org/img/device-photo.php?name=LCD-I2C-CONVERTER"></p>
footprint LCD-I2C-CONVERTER
pins: J1.1 VCC (power), J1.2 SDA, J1.3 SCL, J1.4 GND (power), J2.1 VSS, J2.2 VDD, J2.3 VEE, J2.4 RS, J2.5 R/W, J2.6 EN, J2.7 DB0, J2.8 DB1, J2.9 DB2, J2.10 DB3, J2.11 DB4, J2.12 DB5, J2.13 DB6, J2.14 DB7, J2.15 LED.A, J2.16 LED.K

## LED-8XRGB-LINE
designator ?, comment <b>8 LEDs RGB Line Display</b> based on <b>WS2812B</b> / <p>More details about controlling <b>WS2812B</b> RGB LEDs are available here:<br> / <a href="https://learn.sparkfun.com/tutorials/ws2812-breakout-hookup-guide">https://learn.sparkfun.com/tutorials/ws2812-breakout-hookup-guide</a></p> / <p><b><a href="http://www.ebay.com/sch/ws2812+8+bit+rainbow">Click here to find device on ebay.com</a></b></p> / <p><img alt="photo" src="http://www.diymodules.org/img/device-photo.php?name=LED-8XRGB-LINE"></p>
footprint LED-8XRGB-LINE
pins: A.1 GND.1 (power), A.2 DOUT (out), A.3 VCC.1 (power), A.4 GND.2 (power), B.1 GND.3 (power), B.2 DIN, B.3 VCC.2 (power), B.4 GND.4 (power)

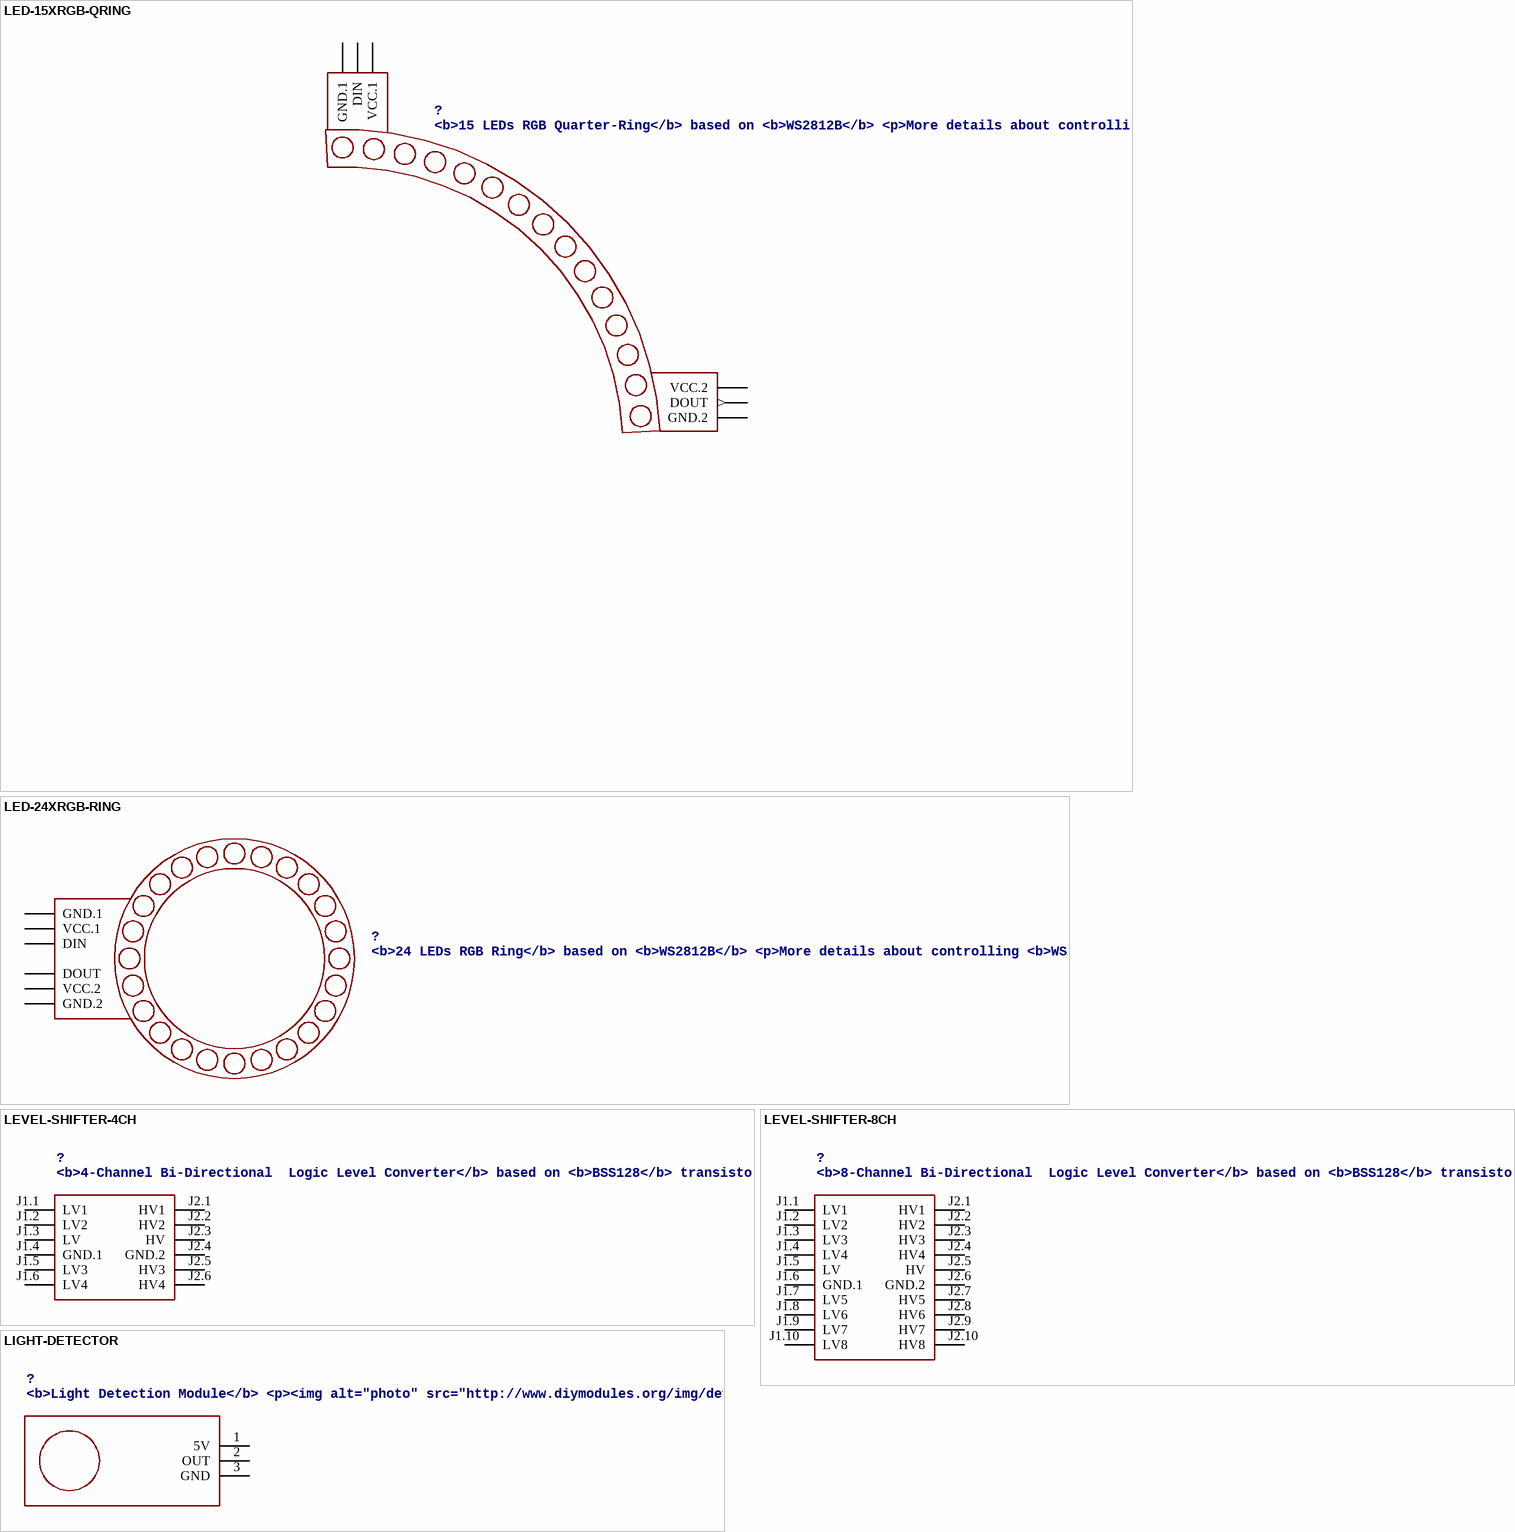
[diagram p7: symbols LED-15XRGB-QRING to LIGHT-DETECTOR]

## LED-15XRGB-QRING
designator ?, comment <b>15 LEDs RGB Quarter-Ring</b> based on <b>WS2812B</b> / <p>More details about controlling <b>WS2812B</b> RGB LEDs are available here:<br> / <a href="https://learn.sparkfun.com/tutorials/ws2812-breakout-hookup-guide">https://learn.sparkfun.com/tutorials/ws2812-breakout-hookup-guide</a></p> / <p><b><a href="http://www.ebay.com/sch/ws2812+60+ring">Click here to find device on ebay.com</a></b><br /> / <b>Note:</b> Sold in packs of 4 pieces.</p> / <p><img alt="photo" src="http://www.diymodules.org/img/device-photo.php?name=LED-15XRGB-QRING"></p>
footprint LED-15XRGB-QRING
pins: 1 GND.1 (power), 2 DIN, 3 VCC.1 (power), 4 GND.2 (power), 5 DOUT (out), 6 VCC.2 (power)

## LED-24XRGB-RING
designator ?, comment <b>24 LEDs RGB Ring</b> based on <b>WS2812B</b> / <p>More details about controlling <b>WS2812B</b> RGB LEDs are available here:<br> / <a href="https://learn.sparkfun.com/tutorials/ws2812-breakout-hookup-guide">https://learn.sparkfun.com/tutorials/ws2812-breakout-hookup-guide</a></p> / <p><b><a href="http://www.ebay.com/sch/ws2812+24+bit+ring">Click here to find device on ebay.com</a></b></p> / <p><img alt="photo" src="http://www.diymodules.org/img/device-photo.php?name=LED-24XRGB-RING"></p>
footprint LED-24XRGB-RING
pins: 1 GND.1 (power), 2 VCC.1 (power), 3 DIN, 4 DOUT, 5 VCC.2 (power), 6 GND.2 (power)

## LEVEL-SHIFTER-4CH
designator ?, comment <b>4-Channel Bi-Directional  Logic Level Converter</b> based on <b>BSS128</b> transistors / <p><b><a href="http://www.ebay.com/sch/i2c+logic+converter+module">Click here to find device on ebay.com</a></b></p> / <p><img alt="photo" src="http://www.diymodules.org/img/device-photo.php?name=LEVEL-SHIFTER-4CH"></p>
footprint LEVEL-SHIFTER-4CH
pins: J1.1 LV1, J1.2 LV2, J1.3 LV (power), J1.4 GND.1 (power), J1.5 LV3, J1.6 LV4, J2.1 HV1, J2.2 HV2, J2.3 HV (power), J2.4 GND.2 (power), J2.5 HV3, J2.6 HV4

## LEVEL-SHIFTER-8CH
designator ?, comment <b>8-Channel Bi-Directional  Logic Level Converter</b> based on <b>BSS128</b> transistors / <p><b><a href="http://www.ebay.com/sch/8+channel+level+converter">Click here to find device on ebay.com</a></b><br /> / <b>Note:</b> There are many variants. Search for the proper version.</p> / <p><img alt="photo" src="http://www.diymodules.org/img/device-photo.php?name=LEVEL-SHIFTER-8CH"></p>
footprint LEVEL-SHIFTER-8CH
pins: J1.1 LV1, J1.2 LV2, J1.3 LV3, J1.4 LV4, J1.5 LV (power), J1.6 GND.1 (power), J1.7 LV5, J1.8 LV6, J1.9 LV7, J1.10 LV8, J2.1 HV1, J2.2 HV2, J2.3 HV3, J2.4 HV4, J2.5 HV (power), J2.6 GND.2 (power), J2.7 HV5, J2.8 HV6, J2.9 HV7, J2.10 HV8

## LIGHT-DETECTOR
designator ?, comment <b>Light Detection Module</b> / <p><img alt="photo" src="http://www.diymodules.org/img/device-photo.php?name=LIGHT-DETECTOR"></p>
footprint LIGHT-DETECTOR
pins: 1 5V (power), 2 OUT, 3 GND (power)

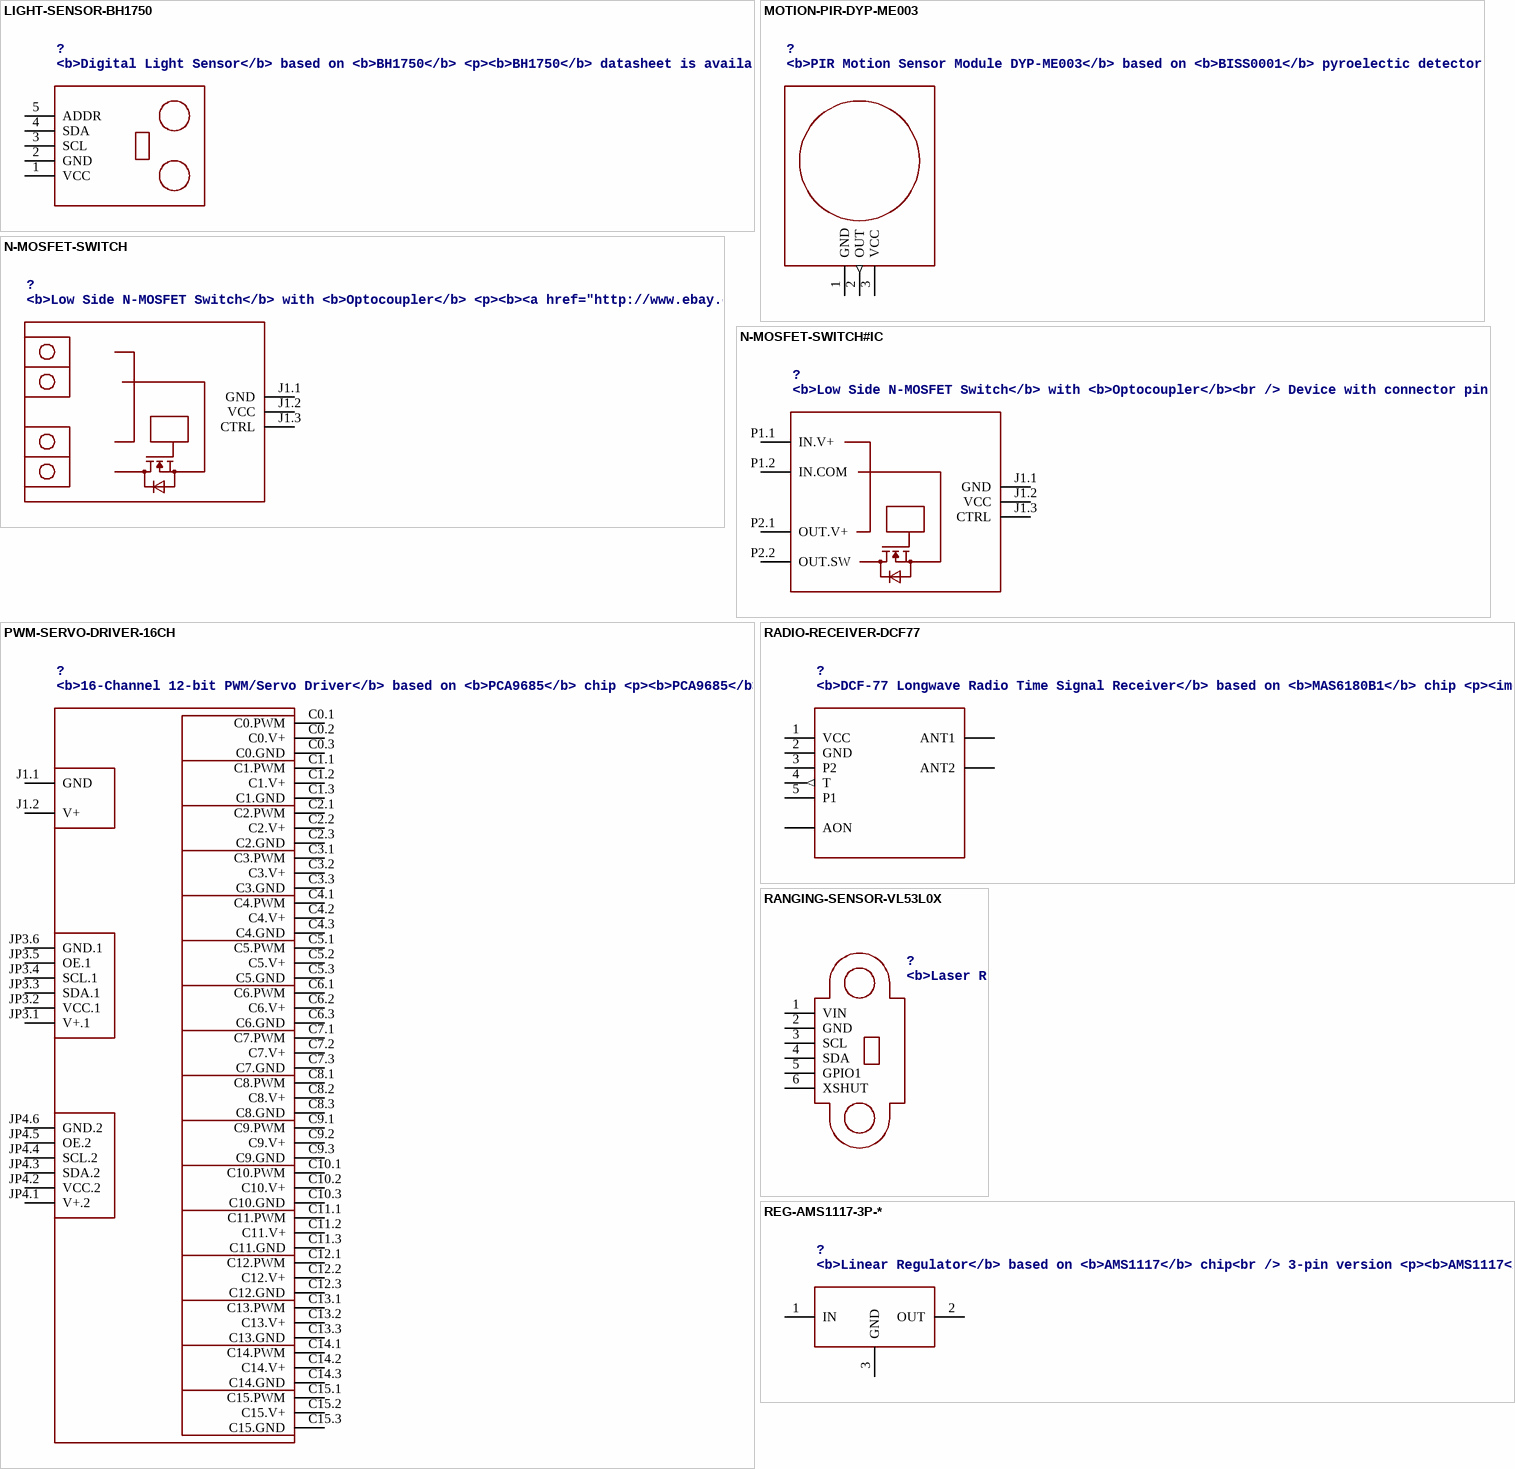
[diagram p8: symbols LIGHT-SENSOR-BH1750 to REG-AMS1117-3P-*]

## LIGHT-SENSOR-BH1750
designator ?, comment <b>Digital Light Sensor</b> based on <b>BH1750</b> / <p><b>BH1750</b> datasheet is available here:<br /> / <a href="http://www.mouser.com/ds/2/348/bh1750fvi-e-186247.pdf">http://www.mouser.com/ds/2/348/bh1750fvi-e-186247.pdf</a></p> / <p><b>Arduino Library</b> for <b>BH1750</b> is available here:<br /> / <a href="https://github.com/claws/BH1750">https://github.com/claws/BH1750</a><p/> / <p><b>Video Tutorial</b> is available here:<br /> / <a href="https://www.youtube.com/watch?v=UsLcHSbxf_8">https://www.youtube.com/watch?v=UsLcHSbxf_8</a></p> / <p><b><a href="http://www.ebay.com/sch/bh1750fvi+module">Click here to find device on ebay.com</a></b><br /> / <b>Note:</b> There are many variants. Search for the proper version.</p> / <p><img alt="photo" src="http://www.diymodules.org/img/device-photo.php?name=LIGHT-SENSOR-BH1750"></p>
footprint LIGHT-SENSOR-BH1750
pins: 1 VCC (power), 2 GND (power), 3 SCL, 4 SDA, 5 ADDR

## MOTION-PIR-DYP-ME003
designator ?, comment <b>PIR Motion Sensor Module DYP-ME003</b> based on <b>BISS0001</b> pyroelectic detector / <p><b><a href="http://www.ebay.com/sch/dyp+me003">Click here to find device on ebay.com</a></b></p> / <p><img alt="photo" src="http://www.diymodules.org/img/device-photo.php?name=MOTION-PIR-DYP-ME003"></p>
footprint MOTION-PIR-DYP-ME003
pins: 1 GND (power), 2 OUT (out), 3 VCC (power)

## N-MOSFET-SWITCH
designator ?, comment <b>Low Side N-MOSFET Switch</b> with <b>Optocoupler</b> / <p><b><a href="http://www.ebay.com/sch/1+route+mosfet+button+irf540">Click here to find device on ebay.com</a></b></p> / <p><img alt="photo" src="http://www.diymodules.org/img/device-photo.php?name=N-MOSFET-SWITCH"></p>
footprint N-MOSFET-SWITCH
pins: J1.1 GND (power), J1.2 VCC (power), J1.3 CTRL

## N-MOSFET-SWITCH#IC
designator ?, comment <b>Low Side N-MOSFET Switch</b> with <b>Optocoupler</b><br /> / Device with connector pins / <p><b><a href="http://www.ebay.com/sch/1+route+mosfet+button+irf540">Click here to find device on ebay.com</a></b></p> / <p><img alt="photo" src="http://www.diymodules.org/img/device-photo.php?name=N-MOSFET-SWITCH"></p>
footprint N-MOSFET-SWITCH#IC
pins: J1.1 GND (power), J1.2 VCC (power), J1.3 CTRL, P1.1 IN.V+ (power), P1.2 IN.COM (power), P2.1 OUT.V+ (power), P2.2 OUT.SW (power)

## PWM-SERVO-DRIVER-16CH
designator ?, comment <b>16-Channel 12-bit PWM/Servo Driver</b> based on <b>PCA9685</b> chip / <p><b>PCA9685</b> datasheet is available here:<br /> / <a href="http://www.nxp.com/documents/data_sheet/PCA9685.pdf">http://www.nxp.com/documents/data_sheet/PCA9685.pdf</a></p> / <p><b>Arduino Library</b> for <b>PCA9685</b> is available here:<br /> / <a href="https://github.com/kasperskaarhoj/PCA9685-Arduino-Library">https://github.com/kasperskaarhoj/PCA9685-Arduino-Library</a></p> / <p><b><a href="http://www.ebay.com/sch/pwm+servo+module+pca9685">Click here to find device on ebay.com</a></b></p> / <p><img alt="photo" src="http://www.diymodules.org/img/device-photo.php?name=PWM-SERVO-DRIVER-16CH"></p>
footprint PWM-SERVO-DRIVER-16CH
pins: C0.1 C0.PWM, C0.2 C0.V+, C0.3 C0.GND, C1.1 C1.PWM, C1.2 C1.V+, C1.3 C1.GND, C2.1 C2.PWM, C2.2 C2.V+, C2.3 C2.GND, C3.1 C3.PWM, C3.2 C3.V+, C3.3 C3.GND, C4.1 C4.PWM, C4.2 C4.V+, C4.3 C4.GND, C5.1 C5.PWM, C5.2 C5.V+, C5.3 C5.GND, C6.1 C6.PWM, C6.2 C6.V+, C6.3 C6.GND, C7.1 C7.PWM, C7.2 C7.V+, C7.3 C7.GND, C8.1 C8.PWM, C8.2 C8.V+, C8.3 C8.GND, C9.1 C9.PWM, C9.2 C9.V+, C9.3 C9.GND, C10.1 C10.PWM, C10.2 C10.V+, C10.3 C10.GND, C11.1 C11.PWM, C11.2 C11.V+, C11.3 C11.GND, C12.1 C12.PWM, C12.2 C12.V+, C12.3 C12.GND, C13.1 C13.PWM, C13.2 C13.V+, C13.3 C13.GND, C14.1 C14.PWM, C14.2 C14.V+, C14.3 C14.GND, C15.1 C15.PWM, C15.2 C15.V+, C15.3 C15.GND, J1.1 GND (power), J1.2 V+ (power), JP3.1 V+.1 (power), JP3.2 VCC.1 (power), JP3.3 SDA.1, JP3.4 SCL.1, JP3.5 OE.1, JP3.6 GND.1 (power), JP4.1 V+.2 (power), JP4.2 VCC.2 (power), JP4.3 SDA.2, JP4.4 SCL.2, JP4.5 OE.2, JP4.6 GND.2 (power)

## RADIO-RECEIVER-DCF77
designator ?, comment <b>DCF-77 Longwave Radio Time Signal Receiver</b> based on <b>MAS6180B1</b> chip / <p><img alt="photo" src="http://www.diymodules.org/img/device-photo.php?name=RADIO-RECEIVER-DCF77"></p>
footprint RADIO-RECEIVER-DCF77
pins: 1 VCC (power), 2 GND (power), 3 P2, 4 T (out), 5 P1, A1 ANT1, A2 ANT2, AON

## RANGING-SENSOR-VL53L0X
designator ?, comment <b>Laser Ranging Sensor</b> based on <b>VL53L0X</b> device / <p>More information about <b>VL53L0X</b> device can be found here:<br /> / <a href="http://www.st.com/en/imaging-and-photonics-solutions/vl53l0x.html">http://www.st.com/en/imaging-and-photonics-solutions/vl53l0x.html</a></p> / <p><b>Arduino Library</b> for <b>VL53L0X</b> is available here:<br /> / <a href="https://github.com/pololu/vl53l0x-arduino">https://github.com/pololu/vl53l0x-arduino</a></p> / <p><b><a href="http://www.ebay.com/sch/GY+VL53L0X+module">Click here to find device on ebay.com</a></b><br /> / <b>Note:</b> There are many variants. Search for the proper version.</p> / <p><img alt="photo" src="http://www.diymodules.org/img/device-photo.php?name=RANGING-SENSOR-VL53L0X"></p>
footprint RANGING-SENSOR-VL53L0X
pins: 1 VIN (power), 2 GND (power), 3 SCL, 4 SDA, 5 GPIO1, 6 XSHUT

## REG-AMS1117-3P-*
designator ?, comment <b>Linear Regulator</b> based on <b>AMS1117</b> chip<br /> / 3-pin version / <p><b>AMS1117</b> datasheet is available here:<br /> / <a href="http://www.advanced-monolithic.com/pdf/ds1117.pdf">http://www.advanced-monolithic.com/pdf/ds1117.pdf</a></p> / <p><b><a href="http://www.ebay.com/sch/ams1117+module">Click here to find device on ebay.com</a></b><br /> / <b>Note:</b> There are many variants. Search for the proper version.</p> / <p><img alt="photo" src="http://www.diymodules.org/img/device-photo.php?name=REG-AMS1117-3P"></p>
footprint REG-AMS1117-3P
pins: 1 IN, 2 OUT, 3 GND

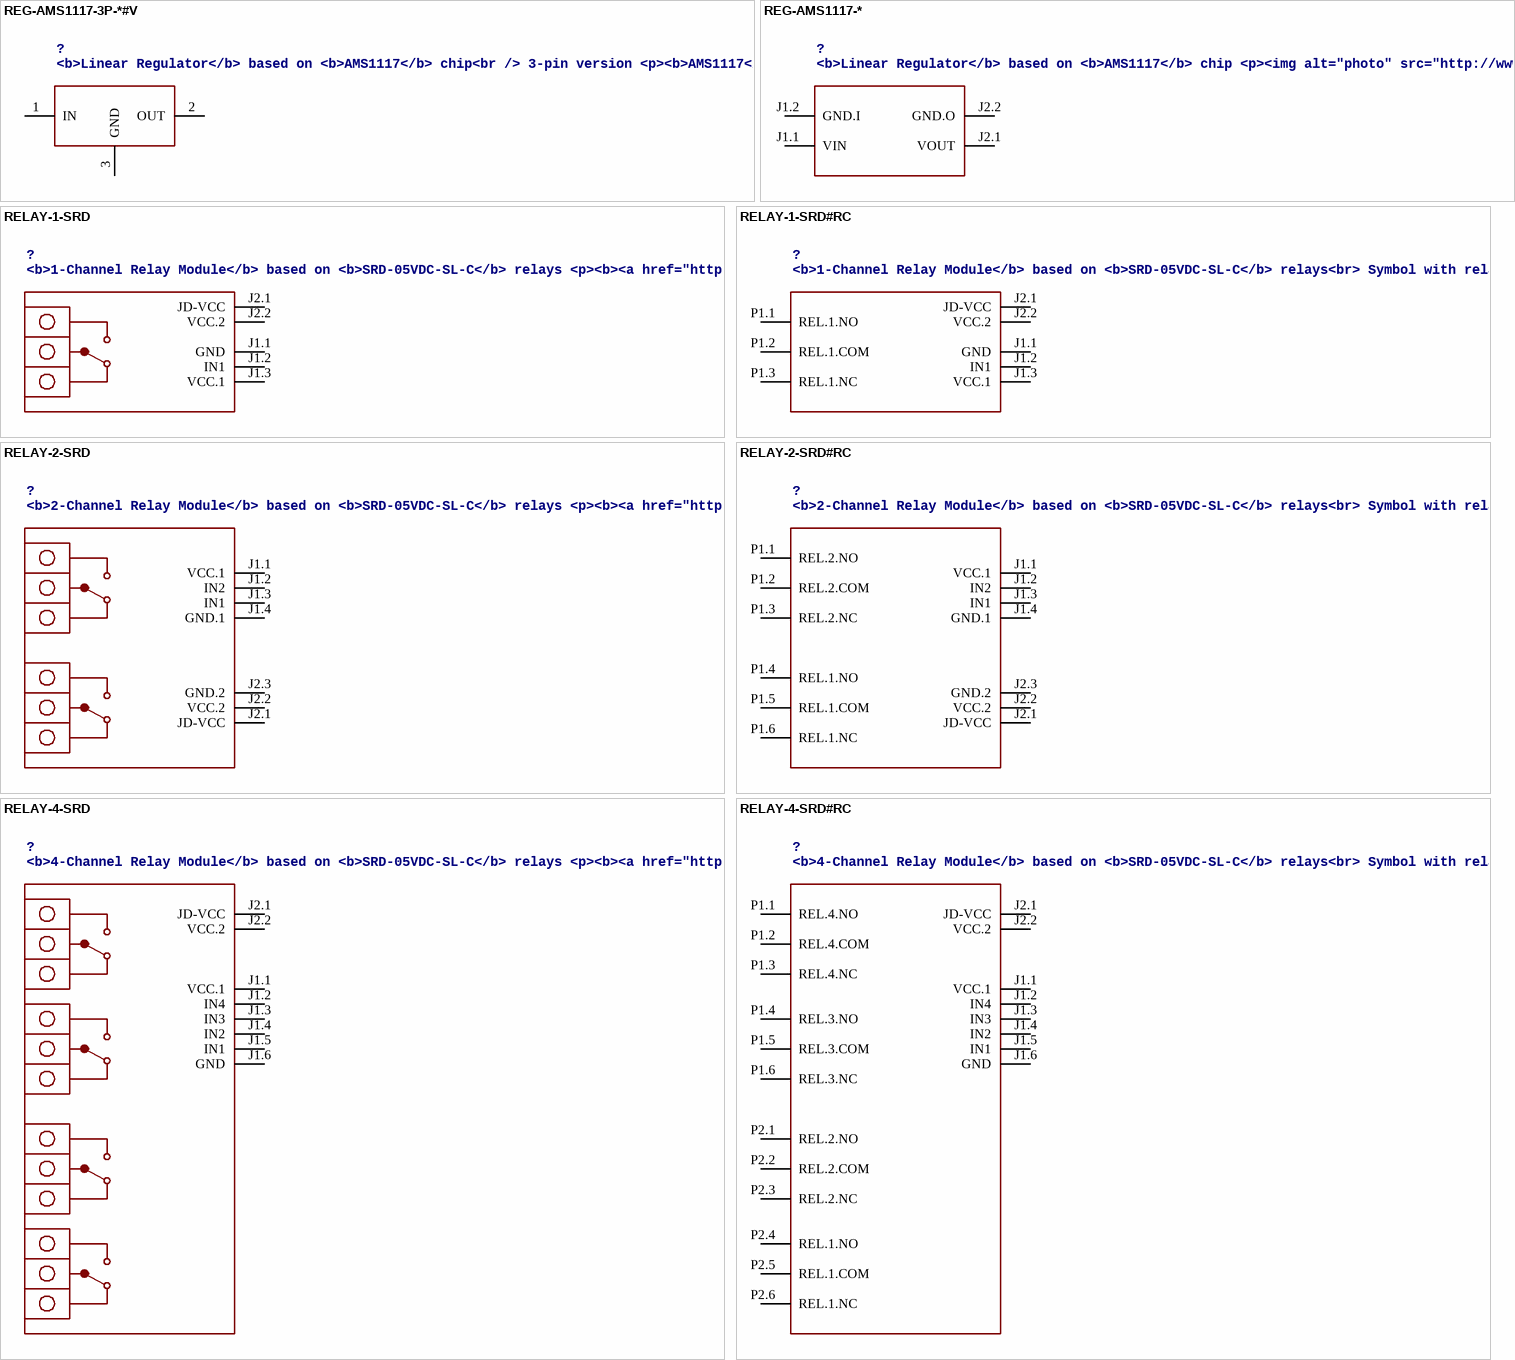
[diagram p9: symbols REG-AMS1117-3P-*#V to RELAY-4-SRD#RC]

## REG-AMS1117-3P-*#V
designator ?, comment <b>Linear Regulator</b> based on <b>AMS1117</b> chip<br /> / 3-pin version / <p><b>AMS1117</b> datasheet is available here:<br /> / <a href="http://www.advanced-monolithic.com/pdf/ds1117.pdf">http://www.advanced-monolithic.com/pdf/ds1117.pdf</a></p> / <p><b><a href="http://www.ebay.com/sch/ams1117+module">Click here to find device on ebay.com</a></b><br /> / <b>Note:</b> There are many variants. Search for the proper version.</p> / <p><img alt="photo" src="http://www.diymodules.org/img/device-photo.php?name=REG-AMS1117-3P"></p>
footprint REG-AMS1117-3P#V
pins: 1 IN, 2 OUT, 3 GND

## REG-AMS1117-*
designator ?, comment <b>Linear Regulator</b> based on <b>AMS1117</b> chip / <p><img alt="photo" src="http://www.diymodules.org/img/device-photo.php?name=REG-AMS1117-"></p>
footprint REG-AMS1117
pins: J1.1 VIN, J1.2 GND.I, J2.1 VOUT, J2.2 GND.O

## RELAY-1-SRD
designator ?, comment <b>1-Channel Relay Module</b> based on <b>SRD-05VDC-SL-C</b> relays / <p><b><a href="http://www.ebay.com/sch/one+channel+isolated+relay+5v">Click here to find device on ebay.com</a></b></p> / <p><img alt="photo" src="http://www.diymodules.org/img/device-photo.php?name=RELAY-1-SRD"></p>
footprint RELAY-1-SRD
pins: J1.1 GND (power), J1.2 IN1, J1.3 VCC.1 (power), J2.1 JD-VCC, J2.2 VCC.2 (power)

## RELAY-1-SRD#RC
designator ?, comment <b>1-Channel Relay Module</b> based on <b>SRD-05VDC-SL-C</b> relays<br> / Symbol with relays pins / <p><b><a href="http://www.ebay.com/sch/one+channel+isolated+relay+5v">Click here to find device on ebay.com</a></b></p> / <p><img alt="photo" src="http://www.diymodules.org/img/device-photo.php?name=RELAY-1-SRD"></p>
footprint RELAY-1-SRD#RC
pins: J1.1 GND (power), J1.2 IN1, J1.3 VCC.1 (power), J2.1 JD-VCC, J2.2 VCC.2 (power), P1.1 REL.1.NO, P1.2 REL.1.COM, P1.3 REL.1.NC

## RELAY-2-SRD
designator ?, comment <b>2-Channel Relay Module</b> based on <b>SRD-05VDC-SL-C</b> relays / <p><b><a href="http://www.ebay.com/sch/two+channel+relay+module+optocoupler+5v">Click here to find device on ebay.com</a></b></p> / <p><img alt="photo" src="http://www.diymodules.org/img/device-photo.php?name=RELAY-2-SRD"></p>
footprint RELAY-2-SRD
pins: J1.1 VCC.1 (power), J1.2 IN2, J1.3 IN1, J1.4 GND.1 (power), J2.1 JD-VCC, J2.2 VCC.2 (power), J2.3 GND.2 (power)

## RELAY-2-SRD#RC
designator ?, comment <b>2-Channel Relay Module</b> based on <b>SRD-05VDC-SL-C</b> relays<br> / Symbol with relays pins / <p><b><a href="http://www.ebay.com/sch/two+channel+relay+module+optocoupler+5v">Click here to find device on ebay.com</a></b></p> / <p><img alt="photo" src="http://www.diymodules.org/img/device-photo.php?name=RELAY-2-SRD"></p>
footprint RELAY-2-SRD#RC
pins: J1.1 VCC.1 (power), J1.2 IN2, J1.3 IN1, J1.4 GND.1 (power), J2.1 JD-VCC, J2.2 VCC.2 (power), J2.3 GND.2 (power), P1.1 REL.2.NO, P1.2 REL.2.COM, P1.3 REL.2.NC, P1.4 REL.1.NO, P1.5 REL.1.COM, P1.6 REL.1.NC

## RELAY-4-SRD
designator ?, comment <b>4-Channel Relay Module</b> based on <b>SRD-05VDC-SL-C</b> relays / <p><b><a href="http://www.ebay.com/sch/four+channel+relay+module+optocoupler+5v">Click here to find device on ebay.com</a></b></p> / <p><img alt="photo" src="http://www.diymodules.org/img/device-photo.php?name=RELAY-4-SRD"></p>
footprint RELAY-4-SRD
pins: J1.1 VCC.1 (power), J1.2 IN4, J1.3 IN3, J1.4 IN2, J1.5 IN1, J1.6 GND (power), J2.1 JD-VCC, J2.2 VCC.2 (power)

## RELAY-4-SRD#RC
designator ?, comment <b>4-Channel Relay Module</b> based on <b>SRD-05VDC-SL-C</b> relays<br> / Symbol with relays pins / <p><b><a href="http://www.ebay.com/sch/four+channel+relay+module+optocoupler+5v">Click here to find device on ebay.com</a></b></p> / <p><img alt="photo" src="http://www.diymodules.org/img/device-photo.php?name=RELAY-4-SRD"></p>
footprint RELAY-4-SRD#RC
pins: J1.1 VCC.1 (power), J1.2 IN4, J1.3 IN3, J1.4 IN2, J1.5 IN1, J1.6 GND (power), J2.1 JD-VCC, J2.2 VCC.2 (power), P1.1 REL.4.NO, P1.2 REL.4.COM, P1.3 REL.4.NC, P1.4 REL.3.NO, P1.5 REL.3.COM, P1.6 REL.3.NC, P2.1 REL.2.NO, P2.2 REL.2.COM, P2.3 REL.2.NC, P2.4 REL.1.NO, P2.5 REL.1.COM, P2.6 REL.1.NC

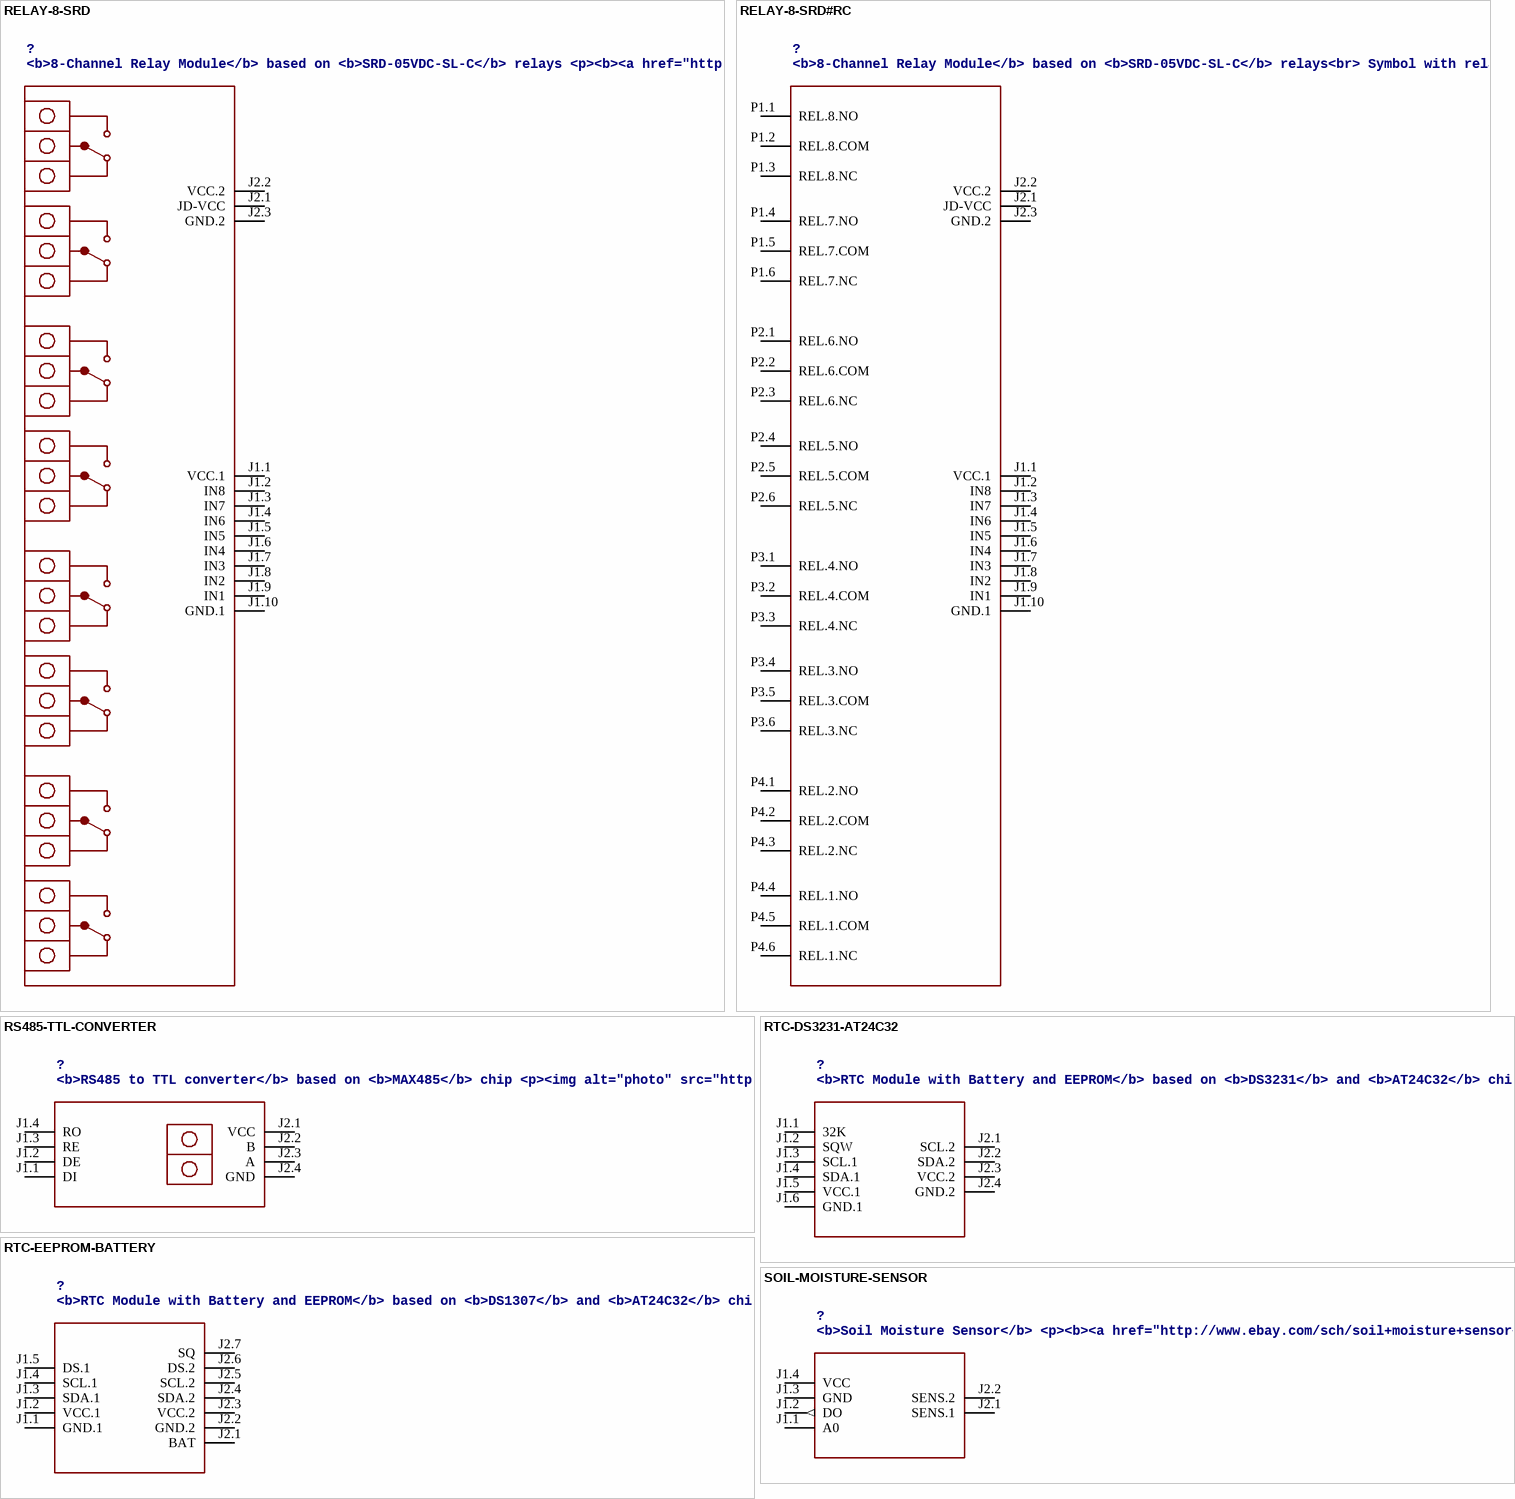
[diagram p10: symbols RELAY-8-SRD to SOIL-MOISTURE-SENSOR]

## RELAY-8-SRD
designator ?, comment <b>8-Channel Relay Module</b> based on <b>SRD-05VDC-SL-C</b> relays / <p><b><a href="http://www.ebay.com/sch/eight+channel+relay+module+optocoupler+5v">Click here to find device on ebay.com</a></b></p> / <p><img alt="photo" src="http://www.diymodules.org/img/device-photo.php?name=RELAY-8-SRD"></p>
footprint RELAY-8-SRD
pins: J1.1 VCC.1 (power), J1.2 IN8, J1.3 IN7, J1.4 IN6, J1.5 IN5, J1.6 IN4, J1.7 IN3, J1.8 IN2, J1.9 IN1, J1.10 GND.1 (power), J2.1 JD-VCC, J2.2 VCC.2 (power), J2.3 GND.2 (power)

## RELAY-8-SRD#RC
designator ?, comment <b>8-Channel Relay Module</b> based on <b>SRD-05VDC-SL-C</b> relays<br> / Symbol with relays pins / <p><b><a href="http://www.ebay.com/sch/eight+channel+relay+module+optocoupler+5v">Click here to find device on ebay.com</a></b></p> / <p><img alt="photo" src="http://www.diymodules.org/img/device-photo.php?name=RELAY-8-SRD"></p>
footprint RELAY-8-SRD#RC
pins: J1.1 VCC.1 (power), J1.2 IN8, J1.3 IN7, J1.4 IN6, J1.5 IN5, J1.6 IN4, J1.7 IN3, J1.8 IN2, J1.9 IN1, J1.10 GND.1 (power), J2.1 JD-VCC, J2.2 VCC.2 (power), J2.3 GND.2 (power), P1.1 REL.8.NO, P1.2 REL.8.COM, P1.3 REL.8.NC, P1.4 REL.7.NO, P1.5 REL.7.COM, P1.6 REL.7.NC, P2.1 REL.6.NO, P2.2 REL.6.COM, P2.3 REL.6.NC, P2.4 REL.5.NO, P2.5 REL.5.COM, P2.6 REL.5.NC, P3.1 REL.4.NO, P3.2 REL.4.COM, P3.3 REL.4.NC, P3.4 REL.3.NO, P3.5 REL.3.COM, P3.6 REL.3.NC, P4.1 REL.2.NO, P4.2 REL.2.COM, P4.3 REL.2.NC, P4.4 REL.1.NO, P4.5 REL.1.COM, P4.6 REL.1.NC

## RS485-TTL-CONVERTER
designator ?, comment <b>RS485 to TTL converter</b> based on <b>MAX485</b> chip / <p><img alt="photo" src="http://www.diymodules.org/img/device-photo.php?name=RS485-TTL-CONVERTER"></p>
footprint RS485-TTL-CONVERTER
pins: J1.1 DI, J1.2 DE, J1.3 RE, J1.4 RO, J2.1 VCC (power), J2.2 B, J2.3 A, J2.4 GND (power)

## RTC-DS3231-AT24C32
designator ?, comment <b>RTC Module with Battery and EEPROM</b> based on <b>DS3231</b> and <b>AT24C32</b> chips / <p>Tutorial can be found here:<br /> / <a href="https://edwardmallon.wordpress.com/2014/05/21/using-a-cheap-3-ds3231-rtc-at24c32-eeprom-from-ebay/">https://edwardmallon.wordpress.com/2014/05/21/using-a-cheap-3-ds3231-rtc-at24c32-eeprom-from-ebay/</a></p> / <p><b><a href="http://www.ebay.com/sch/DS3231+AT24C32+module">Click here to find device on ebay.com</a></b></p> / <p><img alt="photo" src="http://www.diymodules.org/img/device-photo.php?name=RTC-DS3231-AT24C32"></p>
footprint RTC-DS3231-AT24C32
pins: J1.1 32K, J1.2 SQW, J1.3 SCL.1, J1.4 SDA.1, J1.5 VCC.1 (power), J1.6 GND.1 (power), J2.1 SCL.2, J2.2 SDA.2, J2.3 VCC.2 (power), J2.4 GND.2 (power)